# Altium integrated library Integrated_Library1.IntLib: 2483 symbols (part 11 of 13)
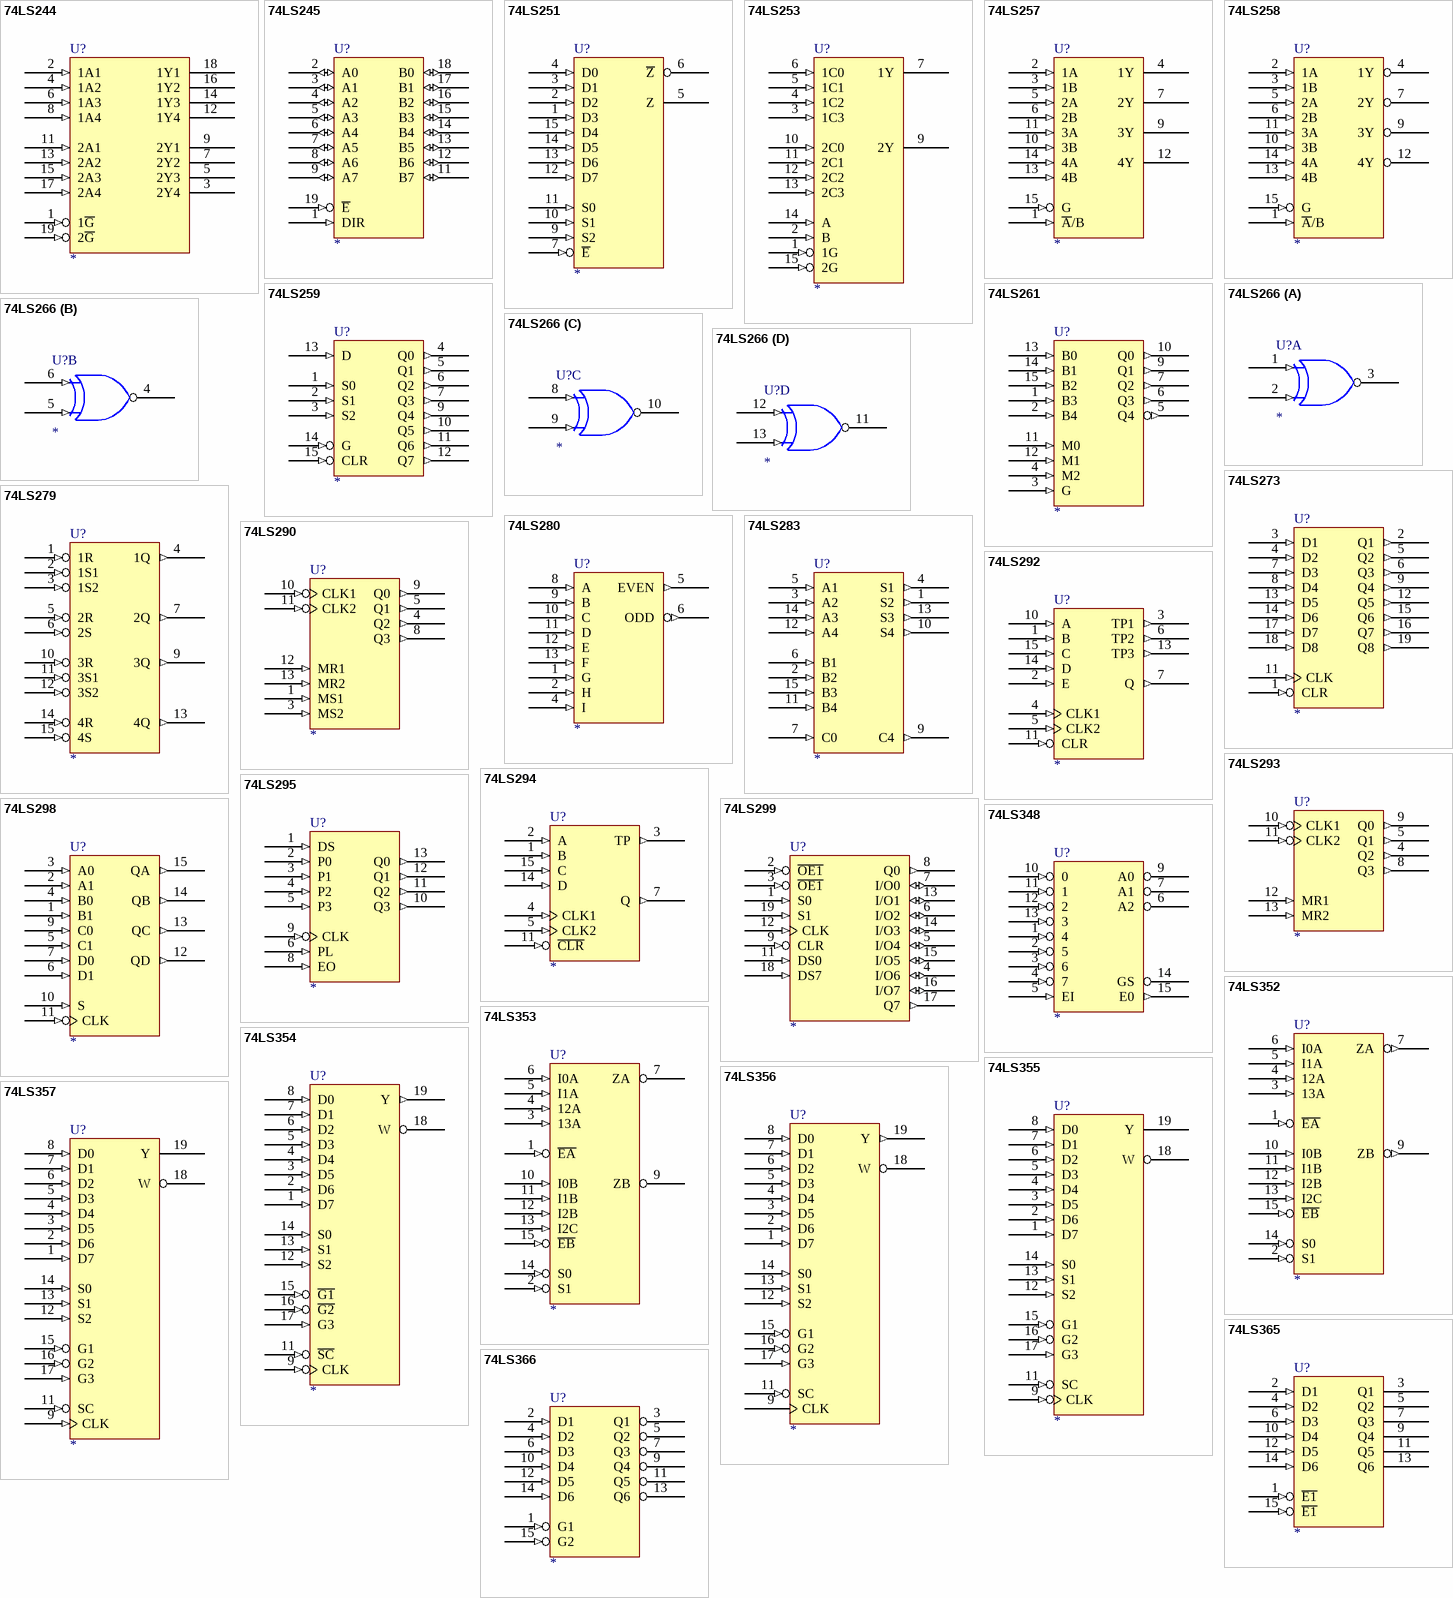
[diagram p118: symbols 74LS244 to 74LS366]

## 74LS259
designator U?
footprint DIP-16
pins: 1 S0 (in), 2 S1 (in), 3 S2 (in), 4 Q0 (out), 5 Q1 (out), 6 Q2 (out), 7 Q3 (out), 8 GND (power) hidden to GND, 9 Q4 (out), 10 Q5 (out), 11 Q6 (out), 12 Q7 (out), 13 D (in), 14 G (in), 15 CLR (in), 16 VCC (power) hidden to VCC

## 74LS261
designator U?
footprint DIP-16
pins: 1 B3 (in), 2 B4 (in), 3 G (in), 4 M2 (in), 5 Q4 (out), 6 Q3 (out), 7 Q2 (out), 8 GND (power) hidden to GND, 9 Q1 (out), 10 Q0 (out), 11 M0 (in), 12 M1 (in), 13 B0 (in), 14 B1 (in), 15 B2 (in), 16 VCC (power) hidden to VCC

## 74LS266
designator U?
footprint DIP-14
part A pins: 1 (in), 2 (in), 3 (oc), 7 GND (power) hidden to GND, 14 VCC (power) hidden to VCC
part B pins: 4 (oc), 5 (in), 6 (in), 7 GND (power) hidden to GND, 14 VCC (power) hidden to VCC
part C pins: 7 GND (power) hidden to GND, 8 (in), 9 (in), 10 (oc), 14 VCC (power) hidden to VCC
part D pins: 7 GND (power) hidden to GND, 11 (oc), 12 (in), 13 (in), 14 VCC (power) hidden to VCC

## 74LS273
designator U?
footprint DIP-20
pins: 1 CLR (in), 2 Q1 (out), 3 D1 (in), 4 D2 (in), 5 Q2 (out), 6 Q3 (out), 7 D3 (in), 8 D4 (in), 9 Q4 (out), 10 GND (power) hidden to GND, 11 CLK (in), 12 Q5 (out), 13 D5 (in), 14 D6 (in), 15 Q6 (out), 16 Q7 (out), 17 D7 (in), 18 D8 (in), 19 Q8 (out), 20 VCC (power) hidden to VCC

## 74LS279
designator U?
footprint DIP-16
pins: 1 1R (in), 2 1S1 (in), 3 1S2 (in), 4 1Q (out), 5 2R (in), 6 2S (in), 7 2Q (out), 8 GND (power) hidden to GND, 9 3Q (out), 10 3R (in), 11 3S1 (in), 12 3S2 (in), 13 4Q (out), 14 4R (in), 15 4S (in), 16 VCC (power) hidden to VCC

## 74LS280
designator U?
footprint DIP-14
pins: 1 G (in), 2 H (in), 4 I (in), 5 EVEN (out), 6 ODD (out), 7 GND (power) hidden to GND, 8 A (in), 9 B (in), 10 C (in), 11 D (in), 12 E (in), 13 F (in), 14 VCC (power) hidden to VCC

## 74LS283
designator U?
footprint DIP-16
pins: 1 S2 (out), 2 B2 (in), 3 A2 (in), 4 S1 (out), 5 A1 (in), 6 B1 (in), 7 C0 (in), 8 GND (power) hidden to GND, 9 C4 (out), 10 S4 (out), 11 B4 (in), 12 A4 (in), 13 S3 (out), 14 A3 (in), 15 B3 (in), 16 VCC (power) hidden to VCC

## 74LS290
designator U?
footprint DIP-14
pins: 1 MS1 (in), 3 MS2 (in), 4 Q2 (out), 5 Q1 (out), 7 GND (power) hidden to GND, 8 Q3 (out), 9 Q0 (out), 10 CLK1 (in), 11 CLK2 (in), 12 MR1 (in), 13 MR2 (in), 14 VCC (power) hidden to VCC

## 74LS292
designator U?
footprint DIP-16
pins: 1 B (in), 2 E (in), 3 TP1 (out), 4 CLK1 (in), 5 CLK2 (in), 6 TP2 (out), 7 Q (out), 8 GND (power) hidden to GND, 10 A (in), 11 CLR (in), 13 TP3 (out), 14 D (in), 15 C (in), 16 VCC (power) hidden to VCC

## 74LS293
designator U?
footprint DIP-14
pins: 4 Q2 (out), 5 Q1 (out), 7 GND (power) hidden to GND, 8 Q3 (out), 9 Q0 (out), 10 CLK1 (in), 11 CLK2 (in), 12 MR1 (in), 13 MR2 (in), 14 VCC (power) hidden to VCC

## 74LS294
designator U?
footprint DIP-16
pins: 1 B (in), 2 A (in), 3 TP (out), 4 CLK1 (in), 5 CLK2 (in), 7 Q (out), 8 GND (power) hidden to GND, 11 ~{CLR} (in), 14 D (in), 15 C (in), 16 VCC (power) hidden to VCC

## 74LS295
designator U?
footprint DIP-14
pins: 1 DS (in), 2 P0 (in), 3 P1 (in), 4 P2 (in), 5 P3 (in), 6 PL (in), 7 GND (power) hidden to GND, 8 EO (in), 9 CLK (in), 10 Q3 (out), 11 Q2 (out), 12 Q1 (out), 13 Q0 (out), 14 VCC (power) hidden to VCC

## 74LS298
designator U?
footprint DIP-16
pins: 1 B1 (in), 2 A1 (in), 3 A0 (in), 4 B0 (in), 5 C1 (in), 6 D1 (in), 7 D0 (in), 8 GND (power) hidden to GND, 9 C0 (in), 10 S (in), 11 CLK (in), 12 QD (out), 13 QC (out), 14 QB (out), 15 QA (out), 16 VCC (power) hidden to VCC

## 74LS299
designator U?
footprint DIP-20
pins: 1 S0 (in), 2 ~{OE1} (in), 3 ~{OE1} (in), 4 I/O6 (io), 5 I/O4 (io), 6 I/O2 (io), 7 I/O0 (io), 8 Q0 (out), 9 CLR (in), 10 GND (power) hidden to GND, 11 DS0 (in), 12 CLK (in), 13 I/O1 (io), 14 I/O3 (io), 15 I/O5 (io), 16 I/O7 (io), 17 Q7 (out), 18 DS7 (in), 19 S1 (in), 20 VCC (power) hidden to VCC

## 74LS348
designator U?
footprint DIP-16
pins: 1 4 (in), 2 5 (in), 3 6 (in), 4 7 (in), 5 EI (in), 6 A2 (hiz), 7 A1 (hiz), 8 GND (power) hidden to GND, 9 A0 (hiz), 10 0 (in), 11 1 (in), 12 2 (in), 13 3 (in), 14 GS (hiz), 15 E0 (out), 16 VCC (power) hidden to VCC

## 74LS352
designator U?
footprint DIP-16
pins: 1 ~{EA} (in), 2 S1 (in), 3 13A (in), 4 12A (in), 5 I1A (in), 6 I0A (in), 7 ZA (out), 8 GND (power) hidden to GND, 9 ZB (out), 10 I0B (in), 11 I1B (in), 12 I2B (in), 13 I2C (in), 14 S0 (in), 15 ~{EB} (in), 16 VCC (power) hidden to VCC

## 74LS353
designator U?
footprint DIP-16
pins: 1 ~{EA} (in), 2 S1 (in), 3 13A (in), 4 12A (in), 5 I1A (in), 6 I0A (in), 7 ZA (hiz), 8 GND (power) hidden to GND, 9 ZB (hiz), 10 I0B (in), 11 I1B (in), 12 I2B (in), 13 I2C (in), 14 S0 (in), 15 ~{EB} (in), 16 VCC (power) hidden to VCC

## 74LS354
designator U?
footprint DIP-20
pins: 1 D7 (in), 2 D6 (in), 3 D5 (in), 4 D4 (in), 5 D3 (in), 6 D2 (in), 7 D1 (in), 8 D0 (in), 9 CLK (in), 10 GND (power) hidden to GND, 11 ~{SC} (in), 12 S2 (in), 13 S1 (in), 14 S0 (in), 15 ~{G1} (in), 16 ~{G2} (in), 17 G3 (in), 18 W (hiz), 19 Y (out), 20 VCC (power) hidden to VCC

## 74LS355
designator U?
footprint DIP-20
pins: 1 D7 (in), 2 D6 (in), 3 D5 (in), 4 D4 (in), 5 D3 (in), 6 D2 (in), 7 D1 (in), 8 D0 (in), 9 CLK (in), 10 GND (power) hidden to GND, 11 SC (in), 12 S2 (in), 13 S1 (in), 14 S0 (in), 15 G1 (in), 16 G2 (in), 17 G3 (in), 18 W (oc), 19 Y (oc), 20 VCC (power) hidden to VCC

## 74LS356
designator U?
footprint DIP-20
pins: 1 D7 (in), 2 D6 (in), 3 D5 (in), 4 D4 (in), 5 D3 (in), 6 D2 (in), 7 D1 (in), 8 D0 (in), 9 CLK, 10 GND (power) hidden to GND, 11 SC (in), 12 S2 (in), 13 S1 (in), 14 S0 (in), 15 G1 (in), 16 G2 (in), 17 G3 (in), 18 W (hiz), 19 Y (out), 20 VCC (power) hidden to VCC

## 74LS357
designator U?
footprint DIP-20
pins: 1 D7 (in), 2 D6 (in), 3 D5 (in), 4 D4 (in), 5 D3 (in), 6 D2 (in), 7 D1 (in), 8 D0 (in), 9 CLK (in), 10 GND (power) hidden to GND, 11 SC (in), 12 S2 (in), 13 S1 (in), 14 S0 (in), 15 G1 (in), 16 G2 (in), 17 G3 (in), 18 W (oc), 19 Y (oc), 20 VCC (power) hidden to VCC

## 74LS365
designator U?
footprint DIP-16
pins: 1 ~{E1} (in), 2 D1 (in), 3 Q1 (hiz), 4 D2 (in), 5 Q2 (hiz), 6 D3 (in), 7 Q3 (hiz), 8 GND (power) hidden to GND, 9 Q4 (hiz), 10 D4 (in), 11 Q5 (hiz), 12 D5 (in), 13 Q6 (hiz), 14 D6 (in), 15 ~{E1} (in), 16 VCC (power) hidden to VCC

## 74LS366
designator U?
footprint DIP-16
pins: 1 G1 (in), 2 D1 (in), 3 Q1 (hiz), 4 D2 (in), 5 Q2 (hiz), 6 D3 (in), 7 Q3 (hiz), 8 GND (power) hidden to GND, 9 Q4 (hiz), 10 D4 (in), 11 Q5 (hiz), 12 D5 (in), 13 Q6 (hiz), 14 D6 (in), 15 G2 (in), 16 VCC (power) hidden to VCC

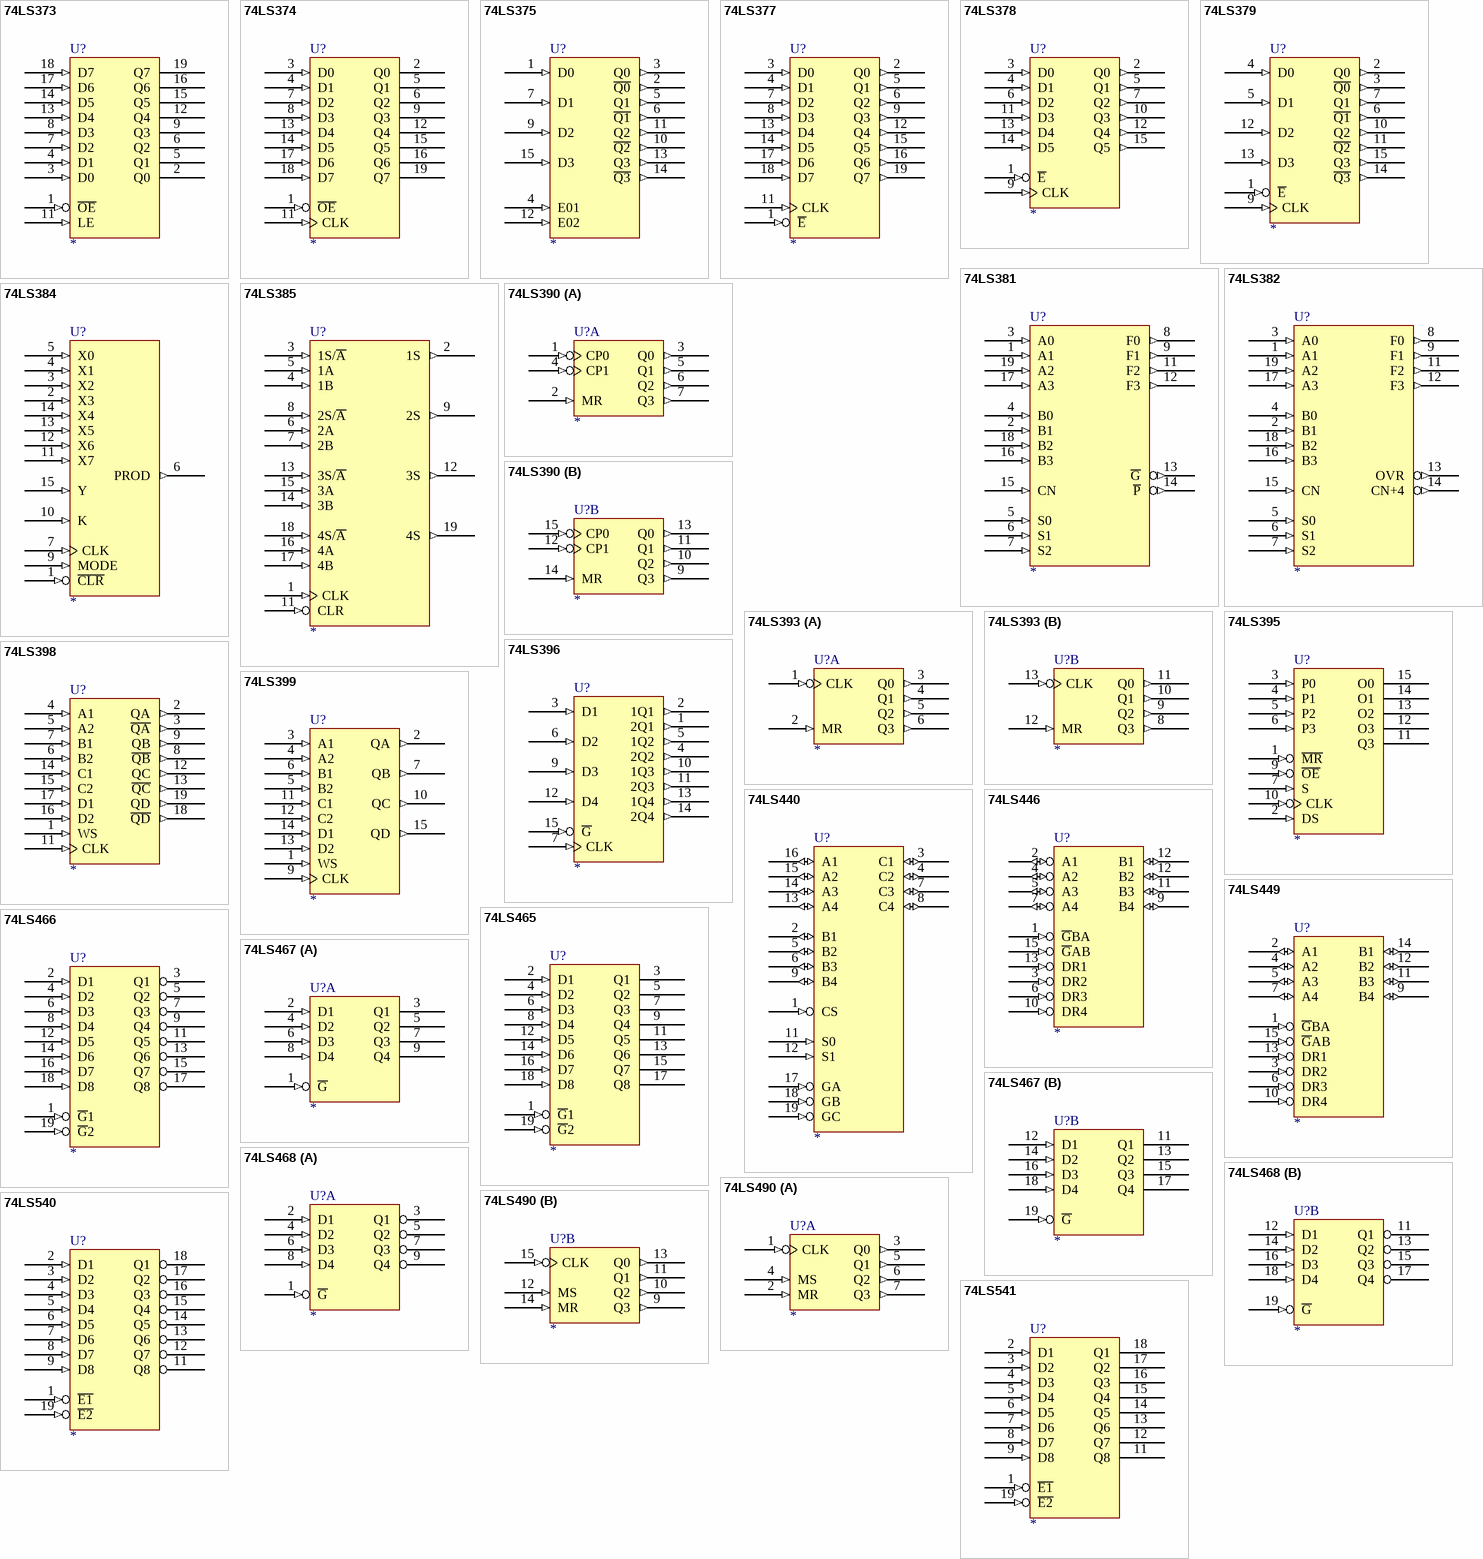
[diagram p78: symbols 74LS373 to 74LS541]

## 74LS373
designator U?
footprint DIP-20
pins: 1 ~{OE} (in), 2 Q0 (hiz), 3 D0 (in), 4 D1 (in), 5 Q1 (hiz), 6 Q2 (hiz), 7 D2 (in), 8 D3 (in), 9 Q3 (hiz), 10 GND (power) hidden to GND, 11 LE (in), 12 Q4 (hiz), 13 D4 (in), 14 D5 (in), 15 Q5 (hiz), 16 Q6 (hiz), 17 D6 (in), 18 D7 (in), 19 Q7 (hiz), 20 VCC (power) hidden to VCC

## 74LS374
designator U?
footprint DIP-20
pins: 1 ~{OE} (in), 2 Q0 (hiz), 3 D0 (in), 4 D1 (in), 5 Q1 (hiz), 6 Q2 (hiz), 7 D2 (in), 8 D3 (in), 9 Q3 (hiz), 10 GND (power) hidden to GND, 11 CLK (in), 12 Q4 (hiz), 13 D4 (in), 14 D5 (in), 15 Q5 (hiz), 16 Q6 (hiz), 17 D6 (in), 18 D7 (in), 19 Q7 (hiz), 20 VCC (power) hidden to VCC

## 74LS375
designator U?
footprint DIP-16
pins: 1 D0 (in), 2 ~{Q0} (out), 3 Q0 (out), 4 E01 (in), 5 Q1 (out), 6 ~{Q1} (out), 7 D1 (in), 8 GND (power) hidden to GND, 9 D2 (in), 10 ~{Q2} (out), 11 Q2 (out), 12 E02 (in), 13 Q3 (out), 14 ~{Q3} (out), 15 D3 (in), 16 VCC (power) hidden to VCC

## 74LS377
designator U?
footprint DIP-16
pins: 1 ~{E} (in), 2 Q0 (out), 3 D0 (in), 4 D1 (in), 5 Q1 (out), 6 Q2 (out), 7 D2 (in), 8 D3 (in), 9 Q3 (out), 11 CLK (in), 11 GND (power) hidden to GND, 12 Q4 (out), 13 D4 (in), 14 D5 (in), 15 Q5 (out), 16 Q6 (out), 17 D6 (in), 18 D7 (in), 19 Q7 (out), 21 VCC (power) hidden to VCC

## 74LS378
designator U?
footprint DIP-16
pins: 1 ~{E} (in), 2 Q0 (out), 3 D0 (in), 4 D1 (in), 5 Q1 (out), 6 D2 (in), 7 Q2 (out), 8 GND (power) hidden to GND, 9 CLK (in), 10 Q3 (out), 11 D3 (in), 12 Q4 (out), 13 D4 (in), 14 D5 (in), 15 Q5 (out), 16 VCC (power) hidden to VCC

## 74LS379
designator U?
footprint DIP-16
pins: 1 ~{E} (in), 2 Q0 (out), 3 ~{Q0} (out), 4 D0 (in), 5 D1 (in), 6 ~{Q1} (out), 7 Q1 (out), 8 GND (power) hidden to GND, 9 CLK (in), 10 Q2 (out), 11 ~{Q2} (out), 12 D2 (in), 13 D3 (in), 14 ~{Q3} (out), 15 Q3 (out), 16 VCC (power) hidden to VCC

## 74LS381
designator U?
footprint DIP-16
pins: 1 A1 (in), 2 B1 (in), 3 A0 (in), 4 B0 (in), 5 S0 (in), 6 S1 (in), 7 S2 (in), 8 F0 (out), 9 F1 (out), 10 GND (power) hidden to GND, 11 F2 (out), 12 F3 (out), 13 ~{G} (out), 14 ~{P} (out), 15 CN (in), 16 B3 (in), 17 A3 (in), 18 B2 (in), 19 A2 (in), 20 VCC (power) hidden to VCC

## 74LS382
designator U?
footprint DIP-20
pins: 1 A1 (in), 2 B1 (in), 3 A0 (in), 4 B0 (in), 5 S0 (in), 6 S1 (in), 7 S2 (in), 8 F0 (out), 9 F1 (out), 10 GND (power) hidden to GND, 11 F2 (out), 12 F3 (out), 13 OVR (out), 14 CN+4 (out), 15 CN (in), 16 B3 (in), 17 A3 (in), 18 B2 (in), 19 A2 (in), 20 VCC (power) hidden to VCC

## 74LS384
designator U?
footprint DIP-16
pins: 1 ~{CLR} (in), 2 X3 (in), 3 X2 (in), 4 X1 (in), 5 X0 (in), 6 PROD (out), 7 CLK (in), 8 GND (power) hidden to GND, 9 MODE (in), 10 K (in), 11 X7 (in), 12 X6 (in), 13 X5 (in), 14 X4 (in), 15 Y (in), 16 VCC (power) hidden to VCC

## 74LS385
designator U?
footprint DIP-20
pins: 1 CLK (in), 2 1S (out), 3 1S/~{A} (in), 4 1B (in), 5 1A (in), 6 2A (in), 7 2B (in), 8 2S/~{A} (in), 9 2S (out), 10 GND (power) hidden to GND, 11 CLR (in), 12 3S (out), 13 3S/~{A} (in), 14 3B (in), 15 3A (in), 16 4A (in), 17 4B (in), 18 4S/~{A} (in), 19 4S (out), 20 VCC (power) hidden to VCC

## 74LS390
designator U?
footprint DIP-16
part A pins: 1 CP0 (in), 2 MR (in), 3 Q0 (out), 4 CP1 (in), 5 Q1 (out), 6 Q2 (out), 7 Q3 (out), 8 GND (power) hidden to GND, 16 VCC (power) hidden to VCC
part B pins: 8 GND (power) hidden to GND, 9 Q3 (out), 10 Q2 (out), 11 Q1 (out), 12 CP1 (in), 13 Q0 (out), 14 MR (in), 15 CP0 (in), 16 VCC (power) hidden to VCC

## 74LS393
designator U?
footprint DIP-14
part A pins: 1 CLK (in), 2 MR (in), 3 Q0 (out), 4 Q1 (out), 5 Q2 (out), 6 Q3 (out), 7 GND (power) hidden to GND, 14 VCC (power) hidden to VCC
part B pins: 7 GND (power) hidden to GND, 8 Q3 (out), 9 Q2 (out), 10 Q1 (out), 11 Q0 (out), 12 MR (in), 13 CLK (in), 14 VCC (power) hidden to VCC

## 74LS395
designator U?
footprint DIP-14
pins: 1 ~{MR} (in), 2 DS (in), 3 P0 (in), 4 P1 (in), 5 P2 (in), 6 P3 (in), 7 S (in), 8 GND (power) hidden to GND, 9 ~{OE} (in), 10 CLK (in), 11 Q3 (hiz), 12 O3 (hiz), 13 O2 (hiz), 14 O1 (hiz), 15 O0 (hiz), 16 VCC (power) hidden to VCC

## 74LS396
designator U?
footprint DIP-14
pins: 1 2Q1 (out), 2 1Q1 (out), 3 D1 (in), 4 2Q2 (out), 5 1Q2 (out), 6 D2 (in), 7 CLK (in), 8 GND (power) hidden to GND, 9 D3 (in), 10 1Q3 (out), 11 2Q3 (out), 12 D4 (in), 13 1Q4 (out), 14 2Q4 (out), 15 ~{G} (in), 16 VCC (power) hidden to VCC

## 74LS398
designator U?
footprint DIP-20
pins: 1 WS (in), 2 QA (out), 3 ~{QA} (out), 4 A1 (in), 5 A2 (in), 6 B2 (in), 7 B1 (in), 8 ~{QB} (out), 9 QB (out), 10 GND (power) hidden to GND, 11 CLK (in), 12 QC (out), 13 ~{QC} (out), 14 C1 (in), 15 C2 (in), 16 D2 (in), 17 D1 (in), 18 ~{QD} (out), 19 QD (out), 20 VCC (power) hidden to VCC

## 74LS399
designator U?
footprint DIP-16
pins: 1 WS (in), 2 QA (out), 3 A1 (in), 4 A2 (in), 5 B2 (in), 6 B1 (in), 7 QB (out), 8 GND (power) hidden to GND, 9 CLK (in), 10 QC (out), 11 C1 (in), 12 C2 (in), 13 D2 (in), 14 D1 (in), 15 QD (out), 16 VCC (power) hidden to VCC

## 74LS440
designator U?
footprint DIP-20
pins: 1 CS (in), 2 B1 (io), 3 C1 (io), 4 C2 (io), 5 B2 (io), 6 B3 (io), 7 C3 (io), 8 C4 (io), 9 B4 (io), 10 GND (power) hidden to GND, 11 S0 (in), 12 S1 (in), 13 A4 (io), 14 A3 (io), 15 A2 (io), 16 A1 (io), 17 GA (in), 18 GB (in), 19 GC (in), 20 VCC (power) hidden to VCC

## 74LS446
designator U?
footprint DIP-16
pins: 1 ~{G}BA (in), 2 A1 (io), 3 DR2 (in), 4 A2 (io), 5 A3 (io), 6 DR3 (in), 7 A4 (io), 8 GND (power) hidden to GND, 9 B4 (io), 10 DR4 (in), 11 B3 (io), 12 B1 (io), 12 B2 (io), 13 DR1 (in), 15 ~{G}AB (in), 16 VCC (power) hidden to VCC

## 74LS449
designator U?
footprint DIP-16
pins: 1 ~{G}BA (in), 2 A1 (io), 3 DR2 (in), 4 A2 (io), 5 A3 (io), 6 DR3 (in), 7 A4 (io), 8 GND (power) hidden to GND, 9 B4 (io), 10 DR4 (in), 11 B3 (io), 12 B2 (io), 13 DR1 (in), 14 B1 (io), 15 ~{G}AB (in), 16 VCC (power) hidden to VCC

## 74LS465
designator U?
footprint DIP-20
pins: 1 ~{G}1 (in), 2 D1 (in), 3 Q1 (hiz), 4 D2 (in), 5 Q2 (hiz), 6 D3 (in), 7 Q3 (hiz), 8 D4 (in), 9 Q4 (hiz), 10 GND (power) hidden to GND, 11 Q5 (hiz), 12 D5 (in), 13 Q6 (hiz), 14 D6 (in), 15 Q7 (hiz), 16 D7 (in), 17 Q8 (hiz), 18 D8 (in), 19 ~{G}2 (in), 20 VCC (power) hidden to VCC

## 74LS466
designator U?
footprint DIP-20
pins: 1 ~{G}1 (in), 2 D1 (in), 3 Q1 (hiz), 4 D2 (in), 5 Q2 (hiz), 6 D3 (in), 7 Q3 (hiz), 8 D4 (in), 9 Q4 (hiz), 10 GND (power) hidden to GND, 11 Q5 (hiz), 12 D5 (in), 13 Q6 (hiz), 14 D6 (in), 15 Q7 (hiz), 16 D7 (in), 17 Q8 (hiz), 18 D8 (in), 19 ~{G}2 (in), 20 VCC (power) hidden to VCC

## 74LS467
designator U?
footprint DIP-20
part A pins: 1 ~{G} (in), 2 D1 (in), 3 Q1 (hiz), 4 D2 (in), 5 Q2 (hiz), 6 D3 (in), 7 Q3 (hiz), 8 D4 (in), 9 Q4 (hiz), 10 GND (power) hidden to GND, 20 VCC (power) hidden to VCC
part B pins: 10 GND (power) hidden to GND, 11 Q1 (hiz), 12 D1 (in), 13 Q2 (hiz), 14 D2 (in), 15 Q3 (hiz), 16 D3 (in), 17 Q4 (hiz), 18 D4 (in), 19 ~{G} (in), 20 VCC (power) hidden to VCC

## 74LS468
designator U?
footprint DIP-20
part A pins: 1 ~{G} (in), 2 D1 (in), 3 Q1 (hiz), 4 D2 (in), 5 Q2 (hiz), 6 D3 (in), 7 Q3 (hiz), 8 D4 (in), 9 Q4 (hiz), 10 GND (power) hidden to GND, 20 VCC (power) hidden to VCC
part B pins: 10 GND (power) hidden to GND, 11 Q1 (hiz), 12 D1 (in), 13 Q2 (hiz), 14 D2 (in), 15 Q3 (hiz), 16 D3 (in), 17 Q4 (hiz), 18 D4 (in), 19 ~{G} (in), 20 VCC (power) hidden to VCC

## 74LS490
designator U?
footprint DIP-16
part A pins: 1 CLK (in), 2 MR (in), 3 Q0 (out), 4 MS (in), 5 Q1 (out), 6 Q2 (out), 7 Q3 (out), 8 GND (power) hidden to GND, 16 VCC (power) hidden to VCC
part B pins: 8 GND (power) hidden to GND, 9 Q3 (out), 10 Q2 (out), 11 Q1 (out), 12 MS (in), 13 Q0 (out), 14 MR (in), 15 CLK (in), 16 VCC (power) hidden to VCC

## 74LS540
designator U?
footprint DIP-20
pins: 1 ~{E1} (in), 2 D1 (in), 3 D2 (in), 4 D3 (in), 5 D4 (in), 6 D5 (in), 7 D6 (in), 8 D7 (in), 9 D8 (in), 10 GND (power) hidden to GND, 11 Q8 (hiz), 12 Q7 (hiz), 13 Q6 (hiz), 14 Q5 (hiz), 15 Q4 (hiz), 16 Q3 (hiz), 17 Q2 (hiz), 18 Q1 (hiz), 19 ~{E2} (in), 20 VCC (power) hidden to VCC

## 74LS541
designator U?
footprint DIP-20
pins: 1 ~{E1} (in), 2 D1 (in), 3 D2 (in), 4 D3 (in), 5 D4 (in), 6 D5 (in), 7 D6 (in), 8 D7 (in), 9 D8 (in), 10 GND (power) hidden to GND, 11 Q8 (hiz), 12 Q7 (hiz), 13 Q6 (hiz), 14 Q5 (hiz), 15 Q4 (hiz), 16 Q3 (hiz), 17 Q2 (hiz), 18 Q1 (hiz), 19 ~{E2} (in), 20 VCC (power) hidden to VCC

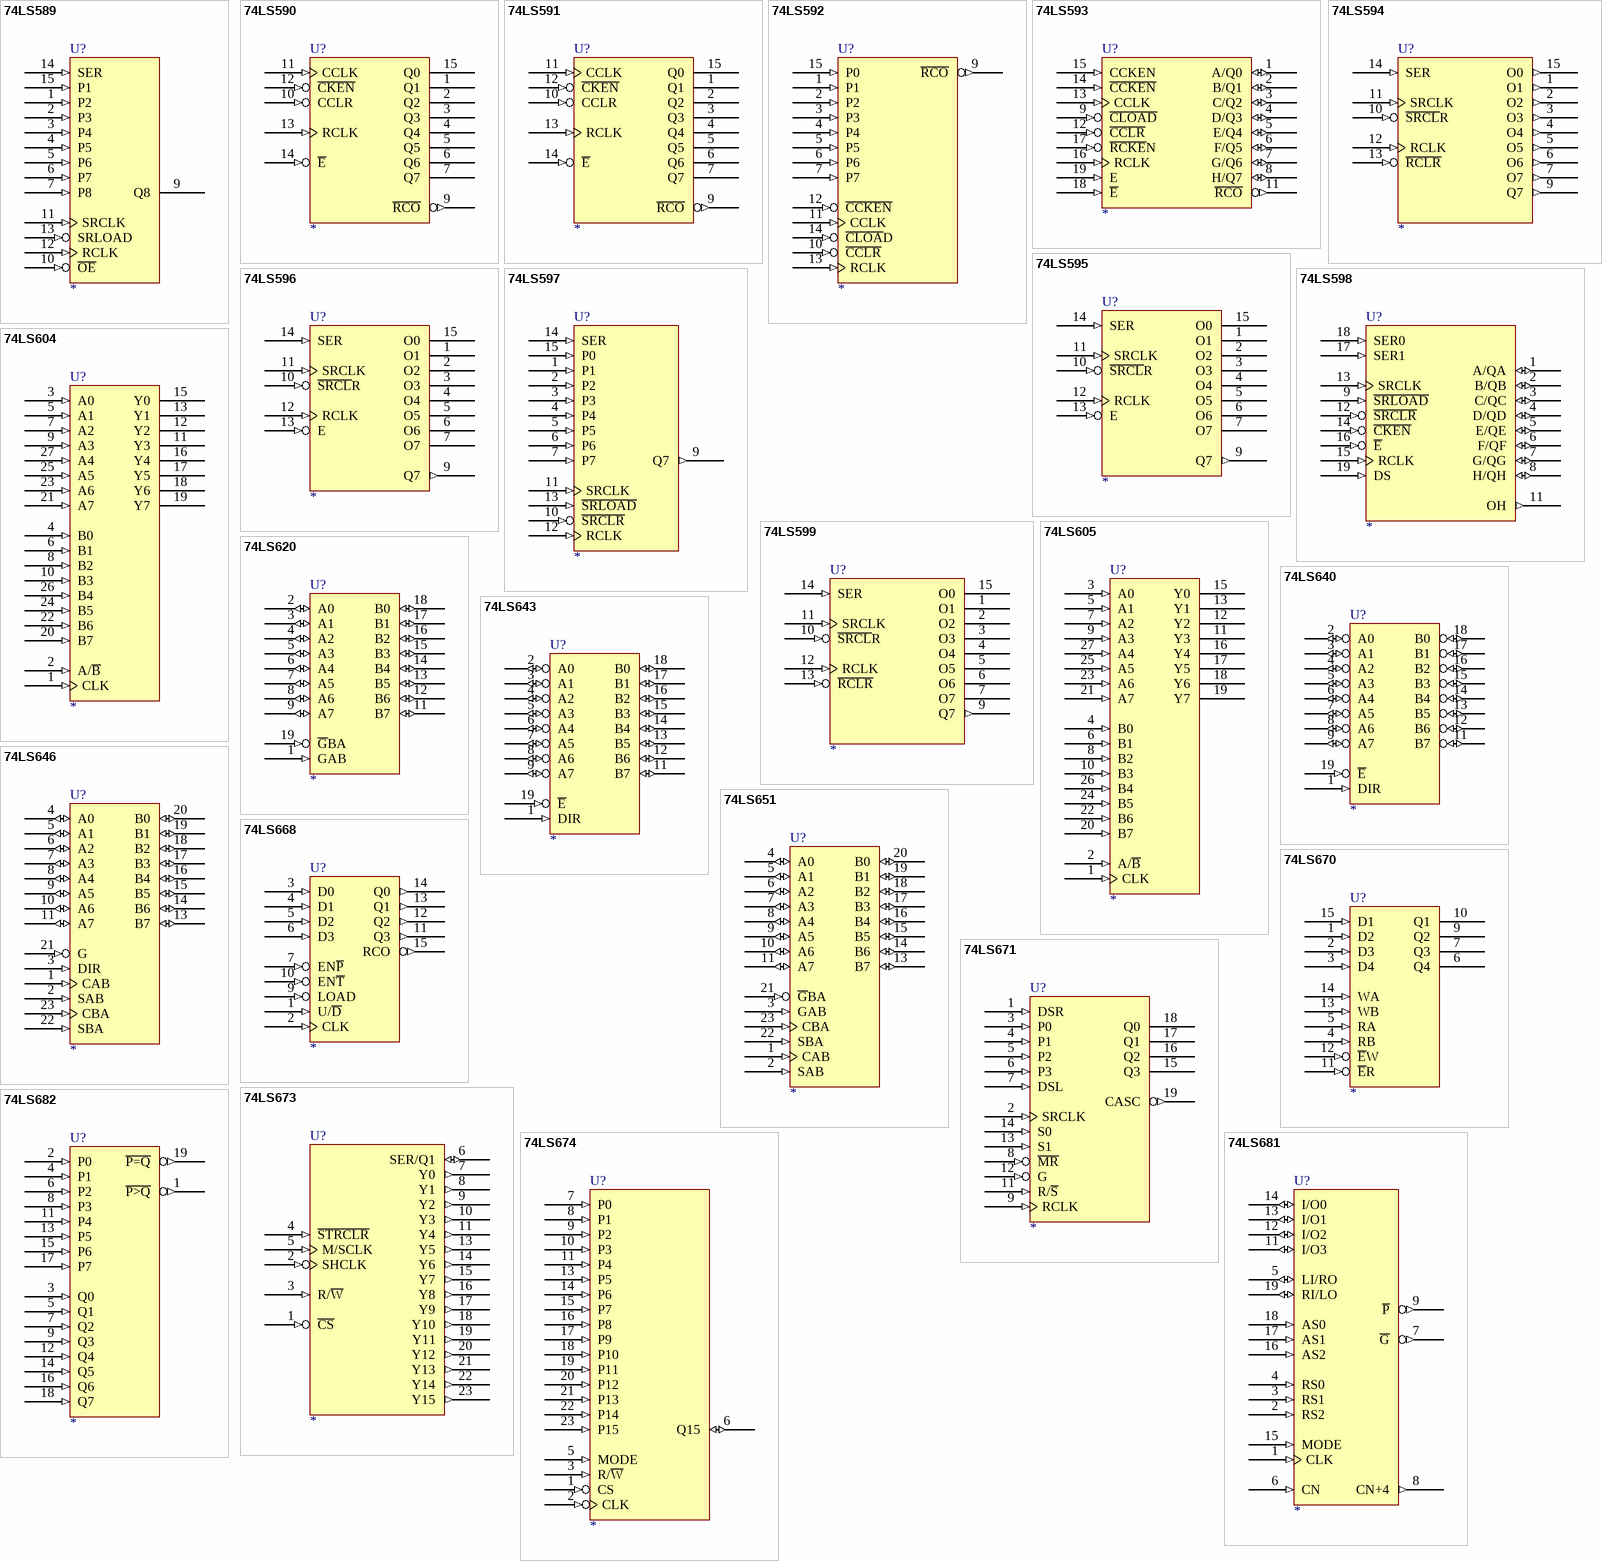
[diagram p79: symbols 74LS589 to 74LS682]

## 74LS589
designator U?
footprint DIP-16
pins: 1 P2 (in), 2 P3 (in), 3 P4 (in), 4 P5 (in), 5 P6 (in), 6 P7 (in), 7 P8 (in), 8 GND (power) hidden to GND, 9 Q8 (hiz), 10 ~{OE} (in), 11 SRCLK (in), 12 RCLK (in), 13 SRLOAD (in), 14 SER (in), 15 P1 (in), 16 VCC (power) hidden to VCC

## 74LS590
designator U?
footprint DIP-16
pins: 1 Q1 (hiz), 2 Q2 (hiz), 3 Q3 (hiz), 4 Q4 (hiz), 5 Q5 (hiz), 6 Q6 (hiz), 7 Q7 (hiz), 8 GND (power) hidden to GND, 9 ~{RCO} (out), 10 CCLR (in), 11 CCLK (in), 12 ~{CKEN} (in), 13 RCLK (in), 14 ~{E} (in), 15 Q0 (hiz), 16 VCC (power) hidden to VCC

## 74LS591
designator U?
footprint DIP-16
pins: 1 Q1 (oc), 2 Q2 (oc), 3 Q3 (oc), 4 Q4 (oc), 5 Q5 (oc), 6 Q6 (oc), 7 Q7 (oc), 8 GND (power) hidden to GND, 9 ~{RCO} (out), 10 CCLR (in), 11 CCLK (in), 12 ~{CKEN} (in), 13 RCLK (in), 14 ~{E} (in), 15 Q0 (oc), 16 VCC (power) hidden to VCC

## 74LS592
designator U?
footprint DIP-16
pins: 1 P1 (in), 2 P2 (in), 3 P3 (in), 4 P4 (in), 5 P5 (in), 6 P6 (in), 7 P7 (in), 8 GND (power) hidden to GND, 9 ~{RCO} (out), 10 ~{CCLR} (in), 11 CCLK (in), 12 ~{CCKEN} (in), 13 RCLK (in), 14 ~{CLOA}D (in), 15 P0 (in), 16 VCC (power) hidden to VCC

## 74LS593
designator U?
footprint DIP-20
pins: 1 A/Q0 (io), 2 B/Q1 (io), 3 C/Q2 (io), 4 D/Q3 (io), 5 E/Q4 (io), 6 F/Q5 (io), 7 G/Q6 (io), 8 H/Q7 (io), 9 ~{CLOAD} (in), 10 GND (power) hidden to GND, 11 ~{RCO} (out), 12 ~{CCLR} (in), 13 CCLK (in), 14 ~{CCKEN} (in), 15 CCKEN (in), 16 RCLK (in), 17 ~{RCKE}N (in), 18 ~{E} (in), 19 E (in), 20 VCC (power) hidden to VCC

## 74LS594
designator U?
footprint DIP-16
pins: 1 O1 (out), 2 O2 (out), 3 O3 (out), 4 O4 (out), 5 O5 (out), 6 O6 (out), 7 O7 (out), 8 GND (power) hidden to GND, 9 Q7 (out), 10 ~{SRCL}R (in), 11 SRCLK (in), 12 RCLK (in), 13 ~{RCLR} (in), 14 SER (in), 15 O0 (out), 16 VCC (power) hidden to VCC

## 74LS595
designator U?
footprint DIP-16
pins: 1 O1 (hiz), 2 O2 (hiz), 3 O3 (hiz), 4 O4 (hiz), 5 O5 (hiz), 6 O6 (hiz), 7 O7 (hiz), 8 GND (power) hidden to GND, 9 Q7 (out), 10 ~{SRCL}R (in), 11 SRCLK (in), 12 RCLK (in), 13 E (in), 14 SER (in), 15 O0 (hiz), 16 VCC (power) hidden to VCC

## 74LS596
designator U?
footprint DIP-16
pins: 1 O1 (oc), 2 O2 (oc), 3 O3 (oc), 4 O4 (oc), 5 O5 (oc), 6 O6 (oc), 7 O7 (oc), 8 GND (power) hidden to GND, 9 Q7 (out), 10 ~{SRCL}R (in), 11 SRCLK (in), 12 RCLK (in), 13 E (in), 14 SER (in), 15 O0 (oc), 16 VCC (power) hidden to VCC

## 74LS597
designator U?
footprint DIP-16
pins: 1 P1 (in), 2 P2 (in), 3 P3 (in), 4 P4 (in), 5 P5 (in), 6 P6 (in), 7 P7 (in), 8 GND (power) hidden to GND, 9 Q7 (out), 10 ~{SRCLR} (in), 11 SRCLK (in), 12 RCLK (in), 13 ~{SRLOAD} (in), 14 SER (in), 15 P0 (in), 16 VCC (power) hidden to VCC

## 74LS598
designator U?
footprint DIP-20
pins: 1 A/QA (io), 2 B/QB (io), 3 C/QC (io), 4 D/QD (io), 5 E/QE (io), 6 F/QF (io), 7 G/QG (io), 8 H/QH (io), 9 ~{SRLOAD} (in), 10 GND (power) hidden to GND, 11 OH (out), 12 ~{SRCLR} (in), 13 SRCLK (in), 14 ~{CKEN} (in), 15 RCLK (in), 16 ~{E} (in), 17 SER1 (in), 18 SER0 (in), 19 DS (in), 20 VCC (power) hidden to VCC

## 74LS599
designator U?
footprint DIP-16
pins: 1 O1 (oc), 2 O2 (oc), 3 O3 (oc), 4 O4 (oc), 5 O5 (oc), 6 O6 (oc), 7 O7 (oc), 8 GND (power) hidden to GND, 9 Q7 (out), 10 ~{SRCL}R (in), 11 SRCLK (in), 12 RCLK (in), 13 ~{RCLR} (in), 14 SER (in), 15 O0 (oc), 16 VCC (power) hidden to VCC

## 74LS604
designator U?
footprint DIP-28
pins: 1 CLK (in), 2 A/~{B} (in), 3 A0 (in), 4 B0 (in), 5 A1 (in), 6 B1 (in), 7 A2 (in), 8 B2 (in), 9 A3 (in), 10 B3 (in), 11 Y3 (hiz), 12 Y2 (hiz), 13 Y1 (hiz), 14 GND (power) hidden to GND, 15 Y0 (hiz), 16 Y4 (hiz), 17 Y5 (hiz), 18 Y6 (hiz), 19 Y7 (hiz), 20 B7 (in), 21 A7 (in), 22 B6 (in), 23 A6 (in), 24 B5 (in), 25 A5 (in), 26 B4 (in), 27 A4 (in), 28 VCC (power) hidden to VCC

## 74LS605
designator U?
footprint DIP-28
pins: 1 CLK (in), 2 A/~{B} (in), 3 A0 (in), 4 B0 (in), 5 A1 (in), 6 B1 (in), 7 A2 (in), 8 B2 (in), 9 A3 (in), 10 B3 (in), 11 Y3 (oc), 12 Y2 (oc), 13 Y1 (oc), 14 GND (power) hidden to GND, 15 Y0 (oc), 16 Y4 (oc), 17 Y5 (oc), 18 Y6 (oc), 19 Y7 (oc), 20 B7 (in), 21 A7 (in), 22 B6 (in), 23 A6 (in), 24 B5 (in), 25 A5 (in), 26 B4 (in), 27 A4 (in), 28 VCC (power) hidden to VCC

## 74LS620
designator U?
footprint DIP-20
pins: 1 GAB (in), 2 A0 (io), 3 A1 (io), 4 A2 (io), 5 A3 (io), 6 A4 (io), 7 A5 (io), 8 A6 (io), 9 A7 (io), 10 GND (power) hidden to GND, 11 B7 (io), 12 B6 (io), 13 B5 (io), 14 B4 (io), 15 B3 (io), 16 B2 (io), 17 B1 (io), 18 B0 (io), 19 ~{G}BA (in), 20 VCC (power) hidden to VCC

## 74LS640
designator U?
footprint DIP-20
pins: 1 DIR (in), 2 A0 (io), 3 A1 (io), 4 A2 (io), 5 A3 (io), 6 A4 (io), 7 A5 (io), 8 A6 (io), 9 A7 (io), 10 GND (power) hidden to GND, 11 B7 (io), 12 B6 (io), 13 B5 (io), 14 B4 (io), 15 B3 (io), 16 B2 (io), 17 B1 (io), 18 B0 (io), 19 ~{E} (in), 20 VCC (power) hidden to VCC

## 74LS643
designator U?
footprint DIP-20
pins: 1 DIR (in), 2 A0 (io), 3 A1 (io), 4 A2 (io), 5 A3 (io), 6 A4 (io), 7 A5 (io), 8 A6 (io), 9 A7 (io), 10 GND (power) hidden to GND, 11 B7 (io), 12 B6 (io), 13 B5 (io), 14 B4 (io), 15 B3 (io), 16 B2 (io), 17 B1 (io), 18 B0 (io), 19 ~{E} (in), 20 VCC (power) hidden to VCC

## 74LS646
designator U?
footprint DIP-24
pins: 1 CAB (in), 2 SAB (in), 3 DIR (in), 4 A0 (io), 5 A1 (io), 6 A2 (io), 7 A3 (io), 8 A4 (io), 9 A5 (io), 10 A6 (io), 11 A7 (io), 12 GND (power) hidden to GND, 13 B7 (io), 14 B6 (io), 15 B5 (io), 16 B4 (io), 17 B3 (io), 18 B2 (io), 19 B1 (io), 20 B0 (io), 21 G (in), 22 SBA (in), 23 CBA (in), 24 VCC (power) hidden to VCC

## 74LS651
designator U?
footprint DIP-24
pins: 1 CAB (in), 2 SAB (in), 3 GAB (in), 4 A0 (io), 5 A1 (io), 6 A2 (io), 7 A3 (io), 8 A4 (io), 9 A5 (io), 10 A6 (io), 11 A7 (io), 12 GND (power) hidden to GND, 13 B7 (io), 14 B6 (io), 15 B5 (io), 16 B4 (io), 17 B3 (io), 18 B2 (io), 19 B1 (io), 20 B0 (io), 21 ~{G}BA (in), 22 SBA (in), 23 CBA (in), 24 VCC (power) hidden to VCC

## 74LS668
designator U?
footprint DIP-16
pins: 1 U/~{D} (in), 2 CLK (in), 3 D0 (in), 4 D1 (in), 5 D2 (in), 6 D3 (in), 7 EN~{P} (in), 8 GND (power) hidden to GND, 9 LOAD (in), 10 EN~{T} (in), 11 Q3 (out), 12 Q2 (out), 13 Q1 (out), 14 Q0 (out), 15 RCO (out), 16 VCC (power) hidden to VCC

## 74LS670
designator U?
footprint DIP-16
pins: 1 D2 (in), 2 D3 (in), 3 D4 (in), 4 RB (in), 5 RA (in), 6 Q4 (hiz), 7 Q3 (hiz), 8 GND (power) hidden to GND, 9 Q2 (hiz), 10 Q1 (hiz), 11 ~{E}R (in), 12 ~{E}W (in), 13 WB (in), 14 WA (in), 15 D1 (in), 16 VCC (power) hidden to VCC

## 74LS671
designator U?
footprint DIP-20
pins: 1 DSR (in), 2 SRCLK (in), 3 P0 (in), 4 P1 (in), 5 P2 (in), 6 P3 (in), 7 DSL (in), 8 ~{MR} (in), 9 RCLK (in), 10 GND (power) hidden to GND, 11 R/~{S} (in), 12 G (in), 13 S1 (in), 14 S0 (in), 15 Q3 (hiz), 16 Q2 (hiz), 17 Q1 (hiz), 18 Q0 (hiz), 19 CASC (out), 20 VCC (power) hidden to VCC

## 74LS673
designator U?
footprint DIP-24
pins: 1 ~{CS} (in), 2 SHCLK (in), 3 R/~{W} (in), 4 ~{STRCLR} (in), 5 M/SCLK (in), 6 SER/Q1 (io), 7 Y0 (out), 8 Y1 (out), 9 Y2 (out), 10 Y3 (out), 11 Y4 (out), 12 GND (power) hidden to GND, 13 Y5 (out), 14 Y6 (out), 15 Y7 (out), 16 Y8 (out), 17 Y9 (out), 18 Y10 (out), 19 Y11 (out), 20 Y12 (out), 21 Y13 (out), 22 Y14 (out), 23 Y15 (out), 24 VCC (power) hidden to VCC

## 74LS674
designator U?
footprint DIP-24
pins: 1 CS (in), 2 CLK (in), 3 R/~{W} (in), 5 MODE (in), 6 Q15 (io), 7 P0 (in), 8 P1 (in), 9 P2 (in), 10 P3 (in), 11 P4 (in), 12 GND (power) hidden to GND, 13 P5 (in), 14 P6 (in), 15 P7 (in), 16 P8 (in), 17 P9 (in), 18 P10 (in), 19 P11 (in), 20 P12 (in), 21 P13 (in), 22 P14 (in), 23 P15 (in), 24 VCC (power) hidden to VCC

## 74LS681
designator U?
footprint DIP-20
pins: 1 CLK (in), 2 RS2 (in), 3 RS1 (in), 4 RS0 (in), 5 LI/RO (io), 6 CN (in), 7 ~{G} (out), 8 CN+4 (out), 9 ~{P} (out), 10 GND (power) hidden to GND, 11 I/O3 (io), 12 I/O2 (io), 13 I/O1 (io), 14 I/O0 (io), 15 MODE (in), 16 AS2 (in), 17 AS1 (in), 18 AS0 (in), 19 RI/LO (io), 20 VCC (power) hidden to VCC

## 74LS682
designator U?
footprint DIP-20
pins: 1 ~{P>Q} (out), 2 P0 (in), 3 Q0 (in), 4 P1 (in), 5 Q1 (in), 6 P2 (in), 7 Q2 (in), 8 P3 (in), 9 Q3 (in), 10 GND (power) hidden to GND, 11 P4 (in), 12 Q4 (in), 13 P5 (in), 14 Q5 (in), 15 P6 (in), 16 Q6 (in), 17 P7 (in), 18 Q7 (in), 19 ~{P=Q} (out), 20 VCC (power) hidden to VCC

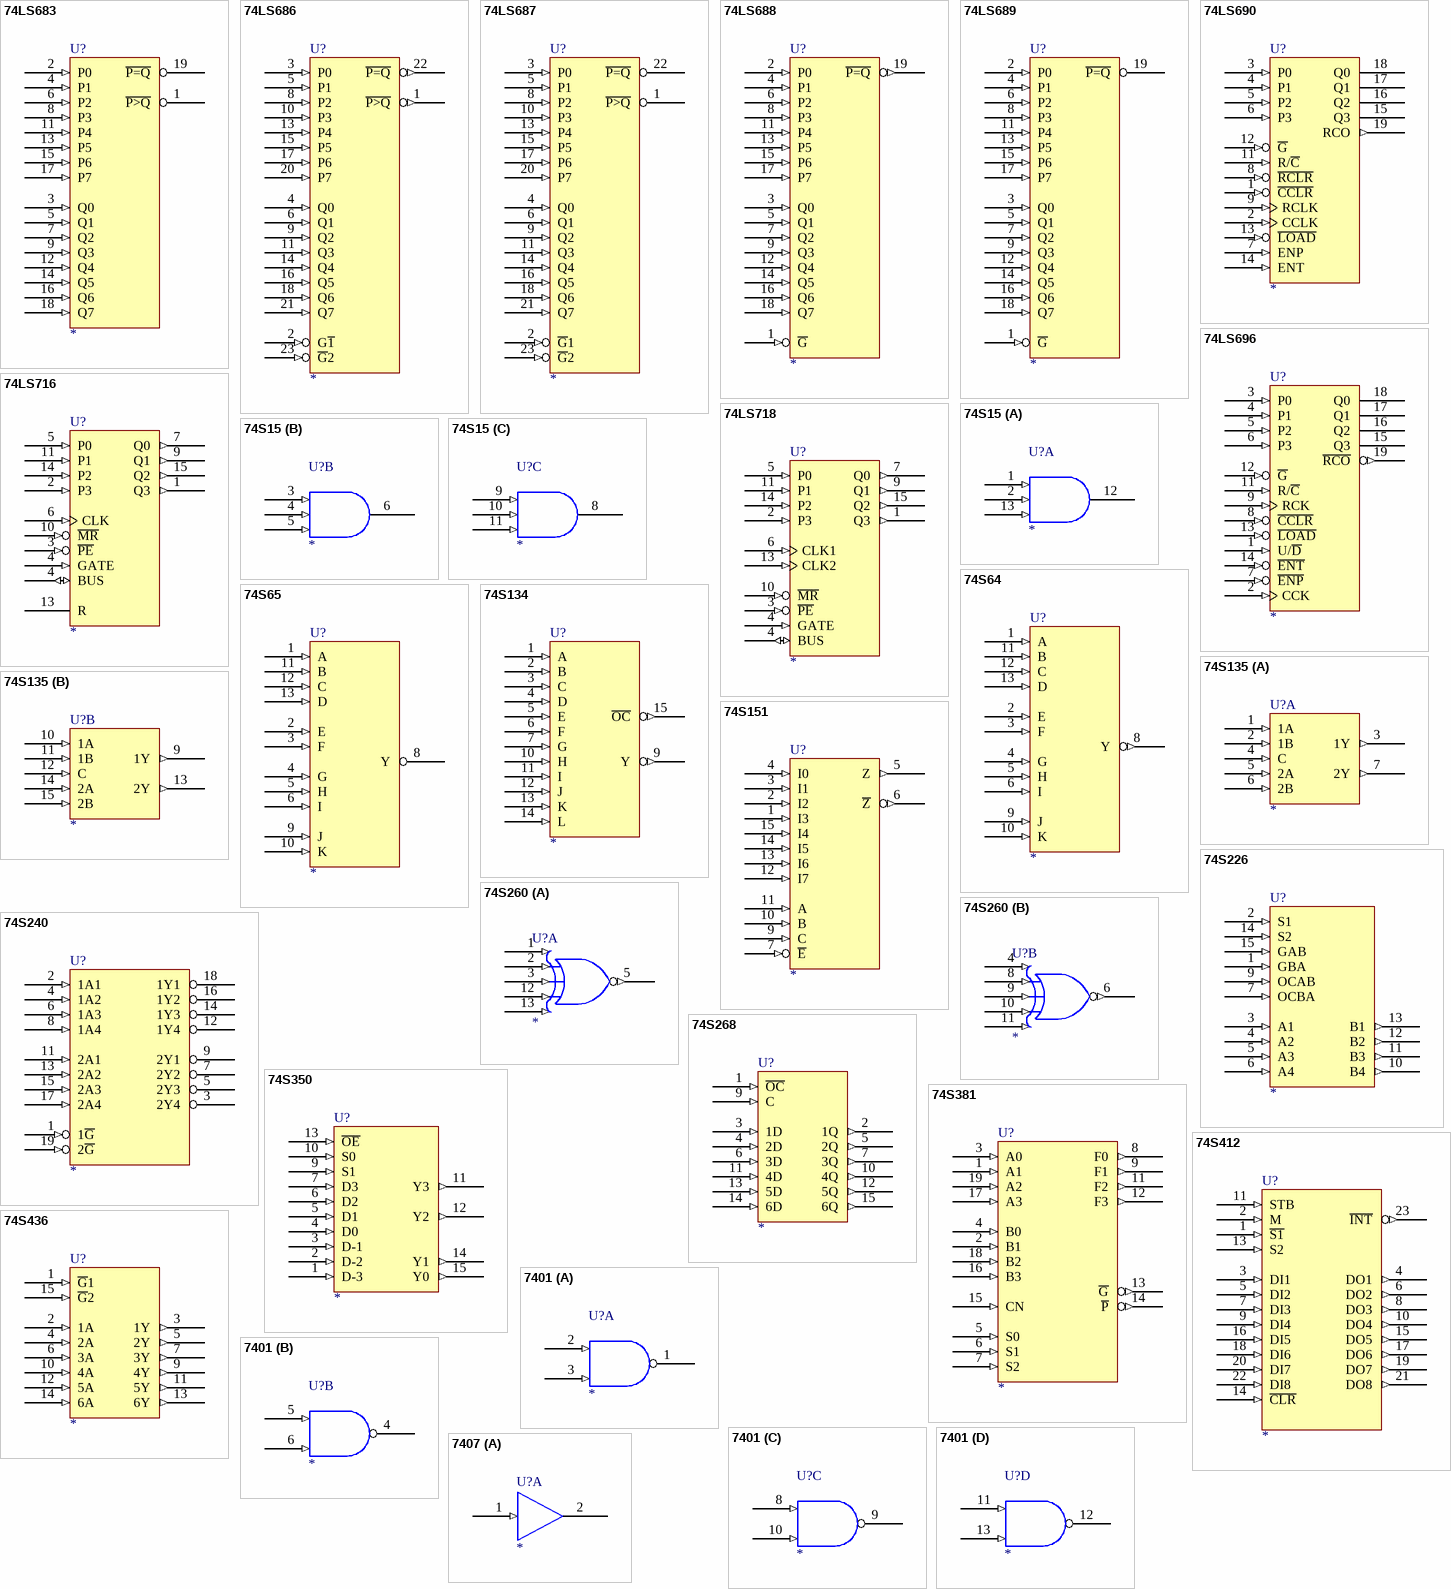
[diagram p80: symbols 74LS683 to 7407]

## 74LS683
designator U?
footprint DIP-20
pins: 1 ~{P>Q} (oc), 2 P0 (in), 3 Q0 (in), 4 P1 (in), 5 Q1 (in), 6 P2 (in), 7 Q2 (in), 8 P3 (in), 9 Q3 (in), 10 GND (power) hidden to GND, 11 P4 (in), 12 Q4 (in), 13 P5 (in), 14 Q5 (in), 15 P6 (in), 16 Q6 (in), 17 P7 (in), 18 Q7 (in), 19 ~{P=Q} (oc), 20 VCC (power) hidden to VCC

## 74LS686
designator U?
footprint DIP-24
pins: 1 ~{P>Q} (out), 2 G~{1} (in), 3 P0 (in), 4 Q0 (in), 5 P1 (in), 6 Q1 (in), 8 P2 (in), 9 Q2 (in), 10 P3 (in), 11 Q3 (in), 12 GND (power) hidden to GND, 13 P4 (in), 14 Q4 (in), 15 P5 (in), 16 Q5 (in), 17 P6 (in), 18 Q6 (in), 20 P7 (in), 21 Q7 (in), 22 ~{P=Q} (out), 23 ~{G}2 (in), 24 VCC (power) hidden to VCC

## 74LS687
designator U?
footprint DIP-24
pins: 1 ~{P>Q} (oc), 2 ~{G}1 (in), 3 P0 (in), 4 Q0 (in), 5 P1 (in), 6 Q1 (in), 8 P2 (in), 9 Q2 (in), 10 P3 (in), 11 Q3 (in), 12 GND (power) hidden to GND, 13 P4 (in), 14 Q4 (in), 15 P5 (in), 16 Q5 (in), 17 P6 (in), 18 Q6 (in), 20 P7 (in), 21 Q7 (in), 22 ~{P=Q} (oc), 23 ~{G}2 (in), 24 VCC (power) hidden to VCC

## 74LS688
designator U?
footprint DIP-20
pins: 1 ~{G} (in), 2 P0 (in), 3 Q0 (in), 4 P1 (in), 5 Q1 (in), 6 P2 (in), 7 Q2 (in), 8 P3 (in), 9 Q3 (in), 10 GND (power) hidden to GND, 11 P4 (in), 12 Q4 (in), 13 P5 (in), 14 Q5 (in), 15 P6 (in), 16 Q6 (in), 17 P7 (in), 18 Q7 (in), 19 ~{P=Q} (out), 20 VCC (power) hidden to VCC

## 74LS689
designator U?
footprint DIP-20
pins: 1 ~{G} (in), 2 P0 (in), 3 Q0 (in), 4 P1 (in), 5 Q1 (in), 6 P2 (in), 7 Q2 (in), 8 P3 (in), 9 Q3 (in), 10 GND (power) hidden to GND, 11 P4 (in), 12 Q4 (in), 13 P5 (in), 14 Q5 (in), 15 P6 (in), 16 Q6 (in), 17 P7 (in), 18 Q7 (in), 19 ~{P=Q} (oc), 20 VCC (power) hidden to VCC

## 74LS690
designator U?
footprint DIP-20
pins: 1 ~{CCLR} (in), 2 CCLK (in), 3 P0 (in), 4 P1 (in), 5 P2 (in), 6 P3 (in), 7 ENP (in), 8 ~{RCLR} (in), 9 RCLK (in), 10 GND (power) hidden to GND, 11 R/~{C} (in), 12 ~{G} (in), 13 ~{LOAD} (in), 14 ENT (in), 15 Q3 (hiz), 16 Q2 (hiz), 17 Q1 (hiz), 18 Q0 (hiz), 19 RCO (out), 20 VCC (power) hidden to VCC

## 74LS696
designator U?
footprint DIP-20
pins: 1 U/~{D} (in), 2 CCK (in), 3 P0 (in), 4 P1 (in), 5 P2 (in), 6 P3 (in), 7 ~{ENP} (in), 8 ~{CCLR} (in), 9 RCK (in), 10 GND (power) hidden to GND, 11 R/~{C} (in), 12 ~{G} (in), 13 ~{LOAD} (in), 14 ~{ENT} (in), 15 Q3 (hiz), 16 Q2 (hiz), 17 Q1 (hiz), 18 Q0 (hiz), 19 ~{RCO} (out), 20 VCC (power) hidden to VCC

## 74LS716
designator U?
footprint DIP-16
pins: 1 Q3 (out), 2 P3 (in), 3 ~{PE} (in), 4 GATE (in), 4 BUS (io), 5 P0 (in), 6 CLK (in), 7 Q0 (out), 8 GND (power) hidden to GND, 9 Q1 (out), 10 ~{MR} (in), 11 P1 (in), 13 R, 14 P2 (in), 15 Q2 (out), 16 VCC (power) hidden to VCC

## 74LS718
designator U?
footprint DIP-16
pins: 1 Q3 (out), 2 P3 (in), 3 ~{PE} (in), 4 GATE (in), 4 BUS (io), 5 P0 (in), 6 CLK1 (in), 7 Q0 (out), 8 GND (power) hidden to GND, 9 Q1 (out), 10 ~{MR} (in), 11 P1 (in), 13 CLK2 (in), 14 P2 (in), 15 Q2 (out), 16 VCC (power) hidden to VCC

## 74S15
designator U?
footprint DIP-14
part A pins: 1 (in), 2 (in), 7 GND (power) hidden to GND, 12 (oc), 13 (in), 14 VCC (power) hidden to VCC
part B pins: 3 (in), 4 (in), 5 (in), 6 (oc), 7 GND (power) hidden to GND, 14 VCC (power) hidden to VCC
part C pins: 7 GND (power) hidden to GND, 8 (oc), 9 (in), 10 (in), 11 (in), 14 VCC (power) hidden to VCC

## 74S64
designator U?
footprint DIP-14
pins: 1 A (in), 2 E (in), 3 F (in), 4 G (in), 5 H (in), 6 I (in), 7 GND (power) hidden to GND, 8 Y (out), 9 J (in), 10 K (in), 11 B (in), 12 C (in), 13 D (in), 14 VCC (power) hidden to VCC

## 74S65
designator U?
footprint DIP-14
pins: 1 A (in), 2 E (in), 3 F (in), 4 G (in), 5 H (in), 6 I (in), 7 GND (power) hidden to GND, 8 Y (oc), 9 J (in), 10 K (in), 11 B (in), 12 C (in), 13 D (in), 14 VCC (power) hidden to VCC

## 74S134
designator U?
footprint DIP-16
pins: 1 A (in), 2 B (in), 3 C (in), 4 D (in), 5 E (in), 6 F (in), 7 G (in), 8 GND (power) hidden to GND, 9 Y (out), 10 H (in), 11 I (in), 12 J (in), 13 K (in), 14 L (in), 15 ~{OC} (out), 16 VCC (power) hidden to VCC

## 74S135
designator U?
footprint DIP-16
part A pins: 1 1A (in), 2 1B (in), 3 1Y (out), 4 C (in), 5 2A (in), 6 2B (in), 7 2Y (out), 8 GND (power) hidden to GND, 16 VCC (power) hidden to VCC
part B pins: 8 GND (power) hidden to GND, 9 1Y (out), 10 1A (in), 11 1B (in), 12 C (in), 13 2Y (out), 14 2A (in), 15 2B (in), 16 VCC (power) hidden to VCC

## 74S151
designator U?
footprint DIP-16
pins: 1 I3 (in), 2 I2 (in), 3 I1 (in), 4 I0 (in), 5 Z (out), 6 ~{Z} (out), 7 ~{E} (in), 8 GND (power) hidden to GND, 9 C (in), 10 B (in), 11 A (in), 12 I7 (in), 13 I6 (in), 14 I5 (in), 15 I4 (in), 16 VCC (power) hidden to VCC

## 74S226
designator U?
footprint DIP-16
pins: 1 GBA (in), 2 S1 (in), 3 A1 (in), 4 A2 (in), 5 A3 (in), 6 A4 (in), 7 OCBA (in), 8 GND (power) hidden to GND, 9 OCAB (in), 10 B4 (out), 11 B3 (out), 12 B2 (out), 13 B1 (out), 14 S2 (in), 15 GAB (in), 16 VCC (power) hidden to VCC

## 74S240
designator U?
footprint DIP-20
pins: 1 1~{G} (in), 2 1A1 (in), 3 2Y4 (hiz), 4 1A2 (in), 5 2Y3 (hiz), 6 1A3 (in), 7 2Y2 (hiz), 8 1A4 (in), 9 2Y1 (hiz), 10 GND (power) hidden to GND, 11 2A1 (in), 12 1Y4 (hiz), 13 2A2 (in), 14 1Y3 (hiz), 15 2A3 (in), 16 1Y2 (hiz), 17 2A4 (in), 18 1Y1 (hiz), 19 2~{G} (in), 20 VCC (power) hidden to VCC

## 74S260
designator U?
footprint DIP-14
part A pins: 1 (in), 2 (in), 3 (in), 5 (out), 7 GND (power) hidden to GND, 12 (in), 13 (in), 14 VCC (power) hidden to VCC
part B pins: 4 (in), 6 (out), 7 GND (power) hidden to GND, 8 (in), 9 (in), 10 (in), 11 (in), 14 VCC (power) hidden to VCC

## 74S268
designator U?
footprint DIP-16
pins: 1 ~{OC} (in), 2 1Q (out), 3 1D (in), 4 2D (in), 5 2Q (out), 6 3D (in), 7 3Q (out), 8 GND (power) hidden to GND, 9 C (in), 10 4Q (out), 11 4D (in), 12 5Q (out), 13 5D (in), 14 6D (in), 15 6Q (out), 16 VCC (power) hidden to VCC

## 74S350
designator U?
footprint DIP-16
pins: 1 D-3 (in), 2 D-2 (in), 3 D-1 (in), 4 D0 (in), 5 D1 (in), 6 D2 (in), 7 D3 (in), 8 GND (power) hidden to GND, 9 S1 (in), 10 S0 (in), 11 Y3 (out), 12 Y2 (out), 13 ~{OE} (in), 14 Y1 (out), 15 Y0 (out), 16 VCC (power) hidden to VCC

## 74S381
designator U?
footprint DIP-20
pins: 1 A1 (in), 2 B1 (in), 3 A0 (in), 4 B0 (in), 5 S0 (in), 6 S1 (in), 7 S2 (in), 8 F0 (out), 9 F1 (out), 10 GND (power) hidden to GND, 11 F2 (out), 12 F3 (out), 13 ~{G} (out), 14 ~{P} (out), 15 CN (in), 16 B3 (in), 17 A3 (in), 18 B2 (in), 19 A2 (in), 20 VCC (power) hidden to VCC

## 74S412
designator U?
footprint DIP-24
pins: 1 ~{S1} (in), 2 M (in), 3 DI1 (in), 4 DO1 (out), 5 DI2 (in), 6 DO2 (out), 7 DI3 (in), 8 DO3 (out), 9 DI4 (in), 10 DO4 (out), 11 STB (in), 12 GND (power) hidden to GND, 13 S2 (in), 14 ~{CLR} (in), 15 DO5 (out), 16 DI5 (in), 17 DO6 (out), 18 DI6 (in), 19 DO7 (out), 20 DI7 (in), 21 DO8 (out), 22 DI8 (in), 23 ~{INT} (out), 24 VCC (power) hidden to VCC

## 74S436
designator U?
footprint DIP-16
pins: 1 ~{G}1 (in), 2 1A (in), 3 1Y (out), 4 2A (in), 5 2Y (out), 6 3A (in), 7 3Y (out), 8 GND (power) hidden to GND, 9 4Y (out), 10 4A (in), 11 5Y (out), 12 5A (in), 13 6Y (out), 14 6A (in), 15 ~{G}2 (in), 16 VCC (power) hidden to VCC

## 7401
designator U?
footprint DIP-14
part A pins: 1 (oc), 2 (in), 3 (in), 7 GND (power) hidden to GND, 14 VCC (power) hidden to VCC
part B pins: 4 (oc), 5 (in), 6 (in), 7 GND (power) hidden to GND, 14 VCC (power) hidden to VCC
part C pins: 7 GND (power) hidden to GND, 8 (in), 9 (oc), 10 (in), 14 VCC (power) hidden to VCC
part D pins: 7 GND (power) hidden to GND, 11 (in), 12 (oc), 13 (in), 14 VCC (power) hidden to VCC

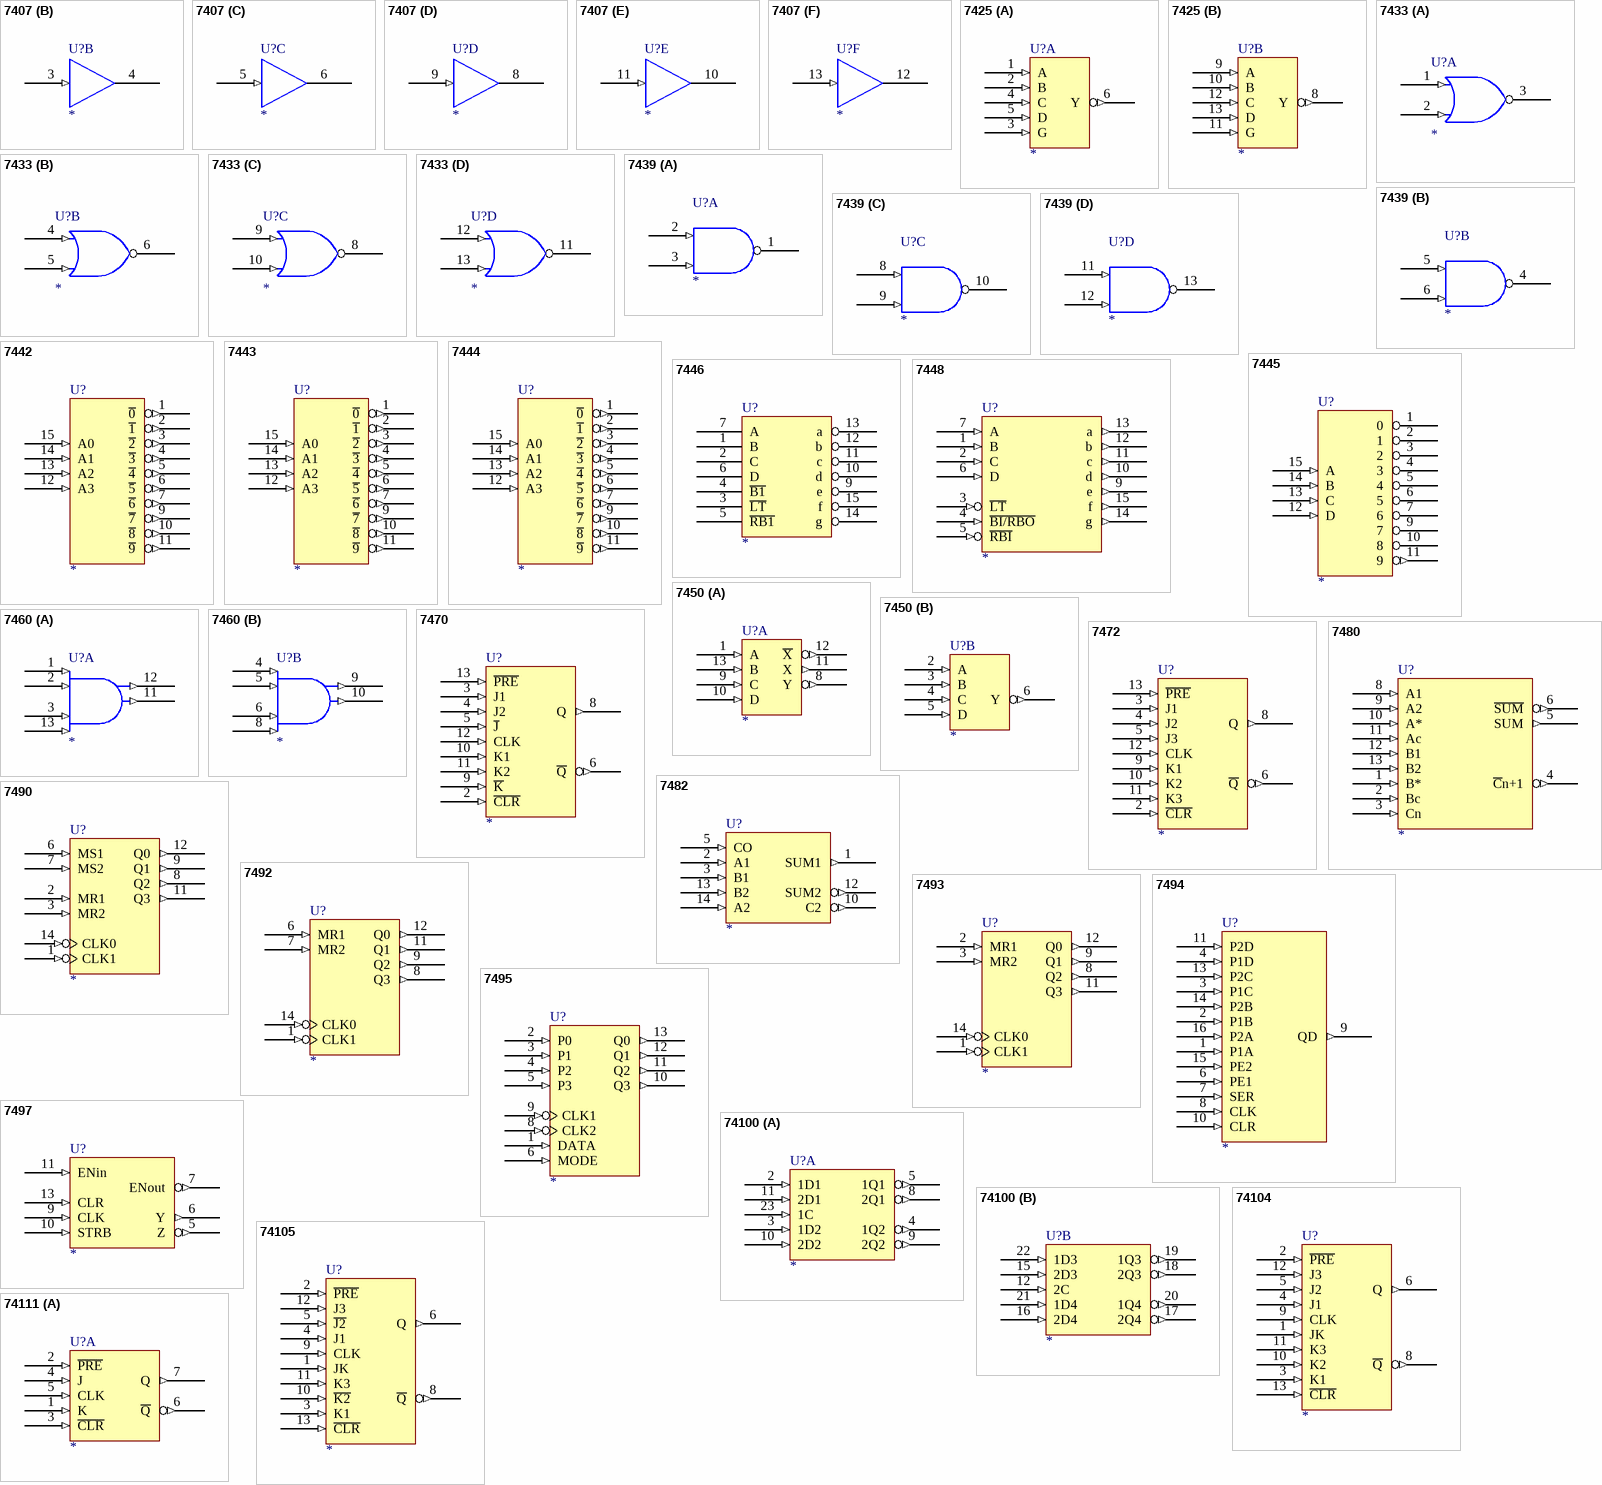
[diagram p81: symbols 7407 to 74111]

## 7407
designator U?
footprint DIP-14
part A pins: 1 (in), 2 (oc), 7 GND (power) hidden to GND, 14 VCC (power) hidden to VCC
part B pins: 3 (in), 4 (oc), 7 GND (power) hidden to GND, 14 VCC (power) hidden to VCC
part C pins: 5 (in), 6 (oc), 7 GND (power) hidden to GND, 14 VCC (power) hidden to VCC
part D pins: 7 GND (power) hidden to GND, 8 (oc), 9 (in), 14 VCC (power) hidden to VCC
part E pins: 7 GND (power) hidden to GND, 10 (oc), 11 (in), 14 VCC (power) hidden to VCC
part F pins: 7 GND (power) hidden to GND, 12 (oc), 13 (in), 14 VCC (power) hidden to VCC

## 7425
designator U?
footprint DIP-14
part A pins: 1 A (in), 2 B (in), 3 G (in), 4 C (in), 5 D (in), 6 Y (out), 7 GND (power) hidden to GND, 14 VCC (power) hidden to VCC
part B pins: 7 GND (power) hidden to GND, 8 Y (out), 9 A (in), 10 B (in), 11 G (in), 12 C (in), 13 D (in), 14 VCC (power) hidden to VCC

## 7433
designator U?
footprint DIP-14
part A pins: 1 (in), 2 (in), 3 (oc), 7 GND (power) hidden to GND, 14 VCC (power) hidden to VCC
part B pins: 4 (in), 5 (in), 6 (oc), 7 GND (power) hidden to GND, 14 VCC (power) hidden to VCC
part C pins: 7 GND (power) hidden to GND, 8 (oc), 9 (in), 10 (in), 14 VCC (power) hidden to VCC
part D pins: 7 GND (power) hidden to GND, 11 (oc), 12 (in), 13 (in), 14 VCC (power) hidden to VCC

## 7439
designator U?
footprint DIP-14
part A pins: 1 (oc), 2 (in), 3 (in), 7 GND (power) hidden to GND, 14 VCC (power) hidden to VCC
part B pins: 4 (oc), 5 (in), 6 (in), 7 GND (power) hidden to GND, 14 VCC (power) hidden to VCC
part C pins: 7 GND (power) hidden to GND, 8 (in), 9 (in), 10 (oc), 14 VCC (power) hidden to VCC
part D pins: 7 GND (power) hidden to GND, 11 (in), 12 (in), 13 (oc), 14 VCC (power) hidden to VCC

## 7442
designator U?
footprint DIP-16
pins: 1 ~{0} (out), 2 ~{1} (out), 3 ~{2} (out), 4 ~{3} (out), 5 ~{4} (out), 6 ~{5} (out), 7 ~{6} (out), 8 GND (power) hidden to GND, 9 ~{7} (out), 10 ~{8} (out), 11 ~{9} (out), 12 A3 (in), 13 A2 (in), 14 A1 (in), 15 A0 (in), 16 VCC (power) hidden to VCC

## 7443
designator U?
footprint DIP-16
pins: 1 ~{0} (out), 2 ~{1} (out), 3 ~{2} (out), 4 ~{3} (out), 5 ~{4} (out), 6 ~{5} (out), 7 ~{6} (out), 8 GND (power) hidden to GND, 9 ~{7} (out), 10 ~{8} (out), 11 ~{9} (out), 12 A3 (in), 13 A2 (in), 14 A1 (in), 15 A0 (in), 16 VCC (power) hidden to VCC

## 7444
designator U?
footprint DIP-16
pins: 1 ~{0} (out), 2 ~{1} (out), 3 ~{2} (out), 4 ~{3} (out), 5 ~{4} (out), 6 ~{5} (out), 7 ~{6} (out), 8 GND (power) hidden to GND, 9 ~{7} (out), 10 ~{8} (out), 11 ~{9} (out), 12 A3 (in), 13 A2 (in), 14 A1 (in), 15 A0 (in), 16 VCC (power) hidden to VCC

## 7445
designator U?
footprint DIP-16
pins: 1 0 (oc), 2 1 (oc), 3 2 (oc), 4 3 (oc), 5 4 (oc), 6 5 (oc), 7 6 (oc), 8 GND (power) hidden to GND, 9 7 (oc), 10 8 (oc), 11 9 (out), 12 D (in), 13 C (in), 14 B (in), 15 A (in), 16 VCC (power) hidden to VCC

## 7446
designator U?
footprint DIP-16
pins: 1 B, 2 C, 3 ~{LT}, 4 ~{B1}, 5 ~{RB1}, 6 D, 7 A, 8 GND (power) hidden to GND, 9 e (oc), 10 d (oc), 11 c (oc), 12 b (oc), 13 a (oc), 14 g (oc), 15 f (oc), 16 VCC (power) hidden to VCC

## 7448
designator U?
footprint DIP-16
pins: 1 B (in), 2 C (in), 3 ~{LT} (in), 4 ~{BI/RBO} (in), 5 ~{RBI} (in), 6 D (in), 7 A (in), 8 GND (power) hidden to GND, 9 e (out), 10 d (out), 11 c (out), 12 b (out), 13 a (out), 14 g (out), 15 f (out), 16 VCC (power) hidden to VCC

## 7450
designator U?
footprint DIP-14
part A pins: 1 A (in), 7 GND (power) hidden to GND, 8 Y (out), 9 C (in), 10 D (in), 11 X (out), 12 ~{X} (out), 13 B (in)
part B pins: 2 A (in), 3 B (in), 4 C (in), 5 D (in), 6 Y (out), 7 GND (power) hidden to GND

## 7460
designator U?
footprint DIP-14
part A pins: 1 (in), 2 (in), 3 (in), 7 GND (power) hidden to GND, 11 (out), 12 (out), 13 (in), 14 VCC (power) hidden to VCC
part B pins: 4 (in), 5 (in), 6 (in), 7 GND (power) hidden to GND, 8 (in), 9 (out), 10 (out), 14 VCC (power) hidden to VCC

## 7470
designator U?
footprint DIP-14
pins: 2 ~{CLR} (in), 3 J1 (in), 4 J2 (in), 5 ~{J} (in), 6 ~{Q} (out), 7 GND (power) hidden to GND, 8 Q (out), 9 ~{K} (in), 10 K1 (in), 11 K2 (in), 12 CLK (in), 13 ~{PRE} (in), 14 VCC (power) hidden to VCC

## 7472
designator U?
footprint DIP-14
pins: 2 ~{CLR} (in), 3 J1 (in), 4 J2 (in), 5 J3 (in), 6 ~{Q} (out), 7 GND (power) hidden to GND, 8 Q (out), 9 K1 (in), 10 K2 (in), 11 K3 (in), 12 CLK (in), 13 ~{PRE} (in), 14 VCC (power) hidden to VCC

## 7480
designator U?
footprint DIP-14
pins: 1 B* (in), 2 Bc (in), 3 Cn (in), 4 ~{C}n+1 (out), 5 SUM (out), 6 ~{SUM} (out), 7 GND (power) hidden to GND, 8 A1 (in), 9 A2 (in), 10 A* (in), 11 Ac (in), 12 B1 (in), 13 B2 (in), 14 VCC (power) hidden to VCC

## 7482
designator U?
footprint DIP-14
pins: 1 SUM1 (out), 2 A1 (in), 3 B1 (in), 4 VCC (power) hidden to VCC, 5 CO (in), 10 C2 (out), 11 GND (power) hidden to GND, 12 SUM2 (out), 13 B2 (in), 14 A2 (in)

## 7490
designator U?
footprint DIP-14
pins: 1 CLK1 (in), 2 MR1 (in), 3 MR2 (in), 5 VCC (power) hidden to VCC, 6 MS1 (in), 7 MS2 (in), 8 Q2 (out), 9 Q1 (out), 10 GND (power) hidden to GND, 11 Q3 (out), 12 Q0 (out), 14 CLK0 (in)

## 7492
designator U?
footprint DIP-14
pins: 1 CLK1 (in), 5 VCC (power) hidden to VCC, 6 MR1 (in), 7 MR2 (in), 8 Q3 (out), 9 Q2 (out), 10 GND (power) hidden to GND, 11 Q1 (out), 12 Q0 (out), 14 CLK0 (in)

## 7493
designator U?
footprint DIP-14
pins: 1 CLK1 (in), 2 MR1 (in), 3 MR2 (in), 5 VCC (power) hidden to VCC, 8 Q2 (out), 9 Q1 (out), 10 GND (power) hidden to GND, 11 Q3 (out), 12 Q0 (out), 14 CLK0 (in)

## 7494
designator U?
footprint DIP-16
pins: 1 P1A (in), 2 P1B (in), 3 P1C (in), 4 P1D (in), 5 VCC (power) hidden to VCC, 6 PE1 (in), 7 SER (in), 8 CLK (in), 9 QD (out), 10 CLR (in), 11 P2D (in), 12 GND (power) hidden to GND, 13 P2C (in), 14 P2B (in), 15 PE2 (in), 16 P2A (in)

## 7495
designator U?
footprint DIP-16
pins: 1 DATA (in), 2 P0 (in), 3 P1 (in), 4 P2 (in), 5 P3 (in), 6 MODE (in), 7 GND (power) hidden to GND, 8 CLK2 (in), 9 CLK1 (in), 10 Q3 (out), 11 Q2 (out), 12 Q1 (out), 13 Q0 (out), 16 VCC (power) hidden to VCC

## 7497
designator U?
footprint DIP-16
pins: 5 Z (out), 6 Y (out), 7 ENout (out), 8 GND (power) hidden to GND, 9 CLK (in), 10 STRB (in), 11 ENin (in), 13 CLR (in), 16 VCC (power) hidden to VCC

## 74100
designator U?
footprint DIP-24
part A pins: 2 1D1 (in), 3 1D2 (in), 4 1Q2 (out), 5 1Q1 (out), 7 GND (power) hidden to GND, 8 2Q1 (out), 9 2Q2 (out), 10 2D2 (in), 11 2D1 (in), 23 1C (in)
part B pins: 7 GND (power) hidden to GND, 12 2C (in), 15 2D3 (in), 16 2D4 (in), 17 2Q4 (out), 18 2Q3 (out), 19 1Q3 (out), 20 1Q4 (out), 21 1D4 (in), 22 1D3 (in)

## 74104
designator U?
footprint DIP-14
pins: 1 JK (in), 2 ~{PRE} (in), 3 K1 (in), 4 J1 (in), 5 J2 (in), 6 Q (out), 7 GND (power) hidden to GND, 8 ~{Q} (out), 9 CLK (in), 10 K2 (in), 11 K3 (in), 12 J3 (in), 13 ~{CLR} (in), 14 VCC (power) hidden to VCC

## 74105
designator U?
footprint DIP-14
pins: 1 JK (in), 2 ~{PRE} (in), 3 K1 (in), 4 J1 (in), 5 ~{J2} (in), 6 Q (out), 7 GND (power) hidden to GND, 8 ~{Q} (out), 9 CLK (in), 10 ~{K2} (in), 11 K3 (in), 12 J3 (in), 13 ~{CLR} (in), 14 VCC (power) hidden to VCC

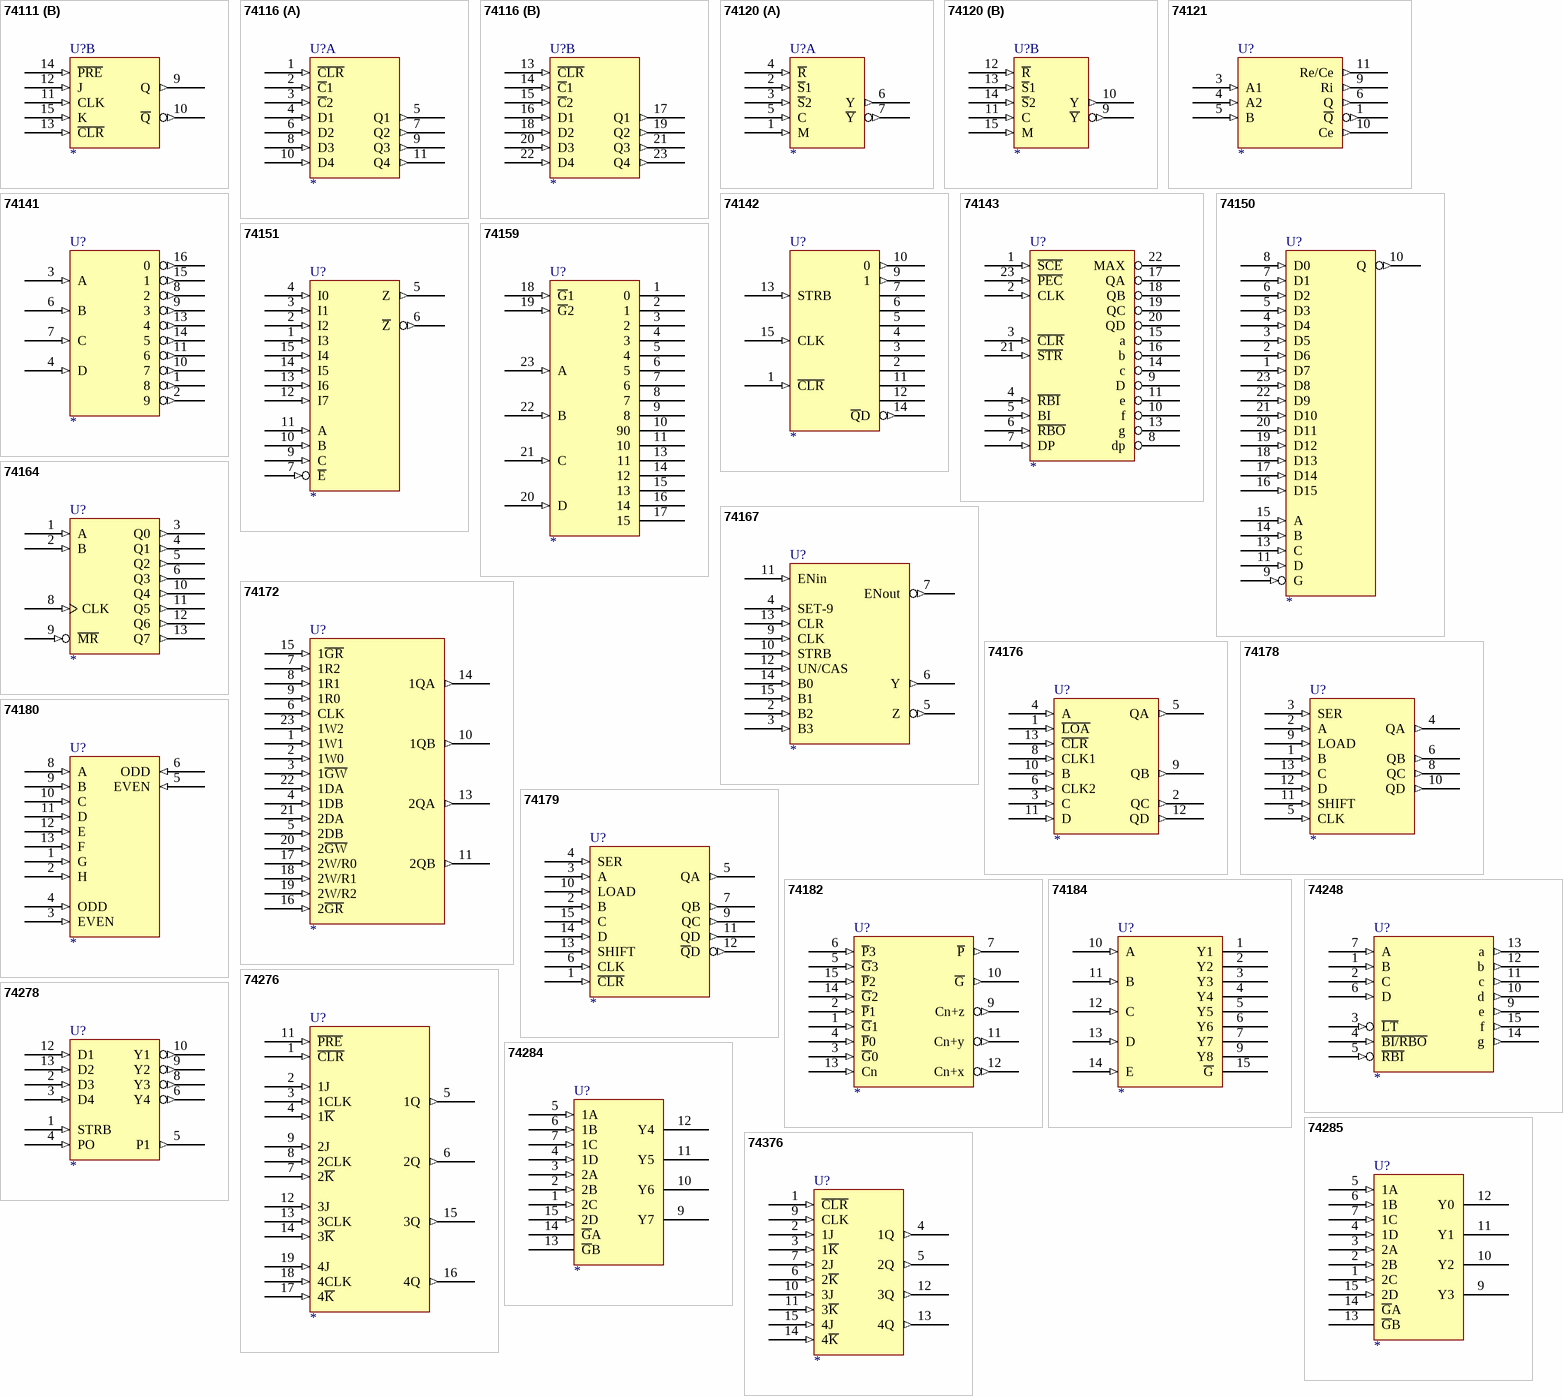
[diagram p82: symbols 74111 to 74376]

## 74111
designator U?
footprint DIP-16
part A pins: 1 K (in), 2 ~{PRE} (in), 3 ~{CLR} (in), 4 J (in), 5 CLK (in), 6 ~{Q} (out), 7 Q (out), 8 GND (power) hidden to GND, 16 VCC (power) hidden to VCC
part B pins: 8 GND (power) hidden to GND, 9 Q (out), 10 ~{Q} (out), 11 CLK (in), 12 J (in), 13 ~{CLR} (in), 14 ~{PRE} (in), 15 K (in), 16 VCC (power) hidden to VCC

## 74116
designator U?
footprint DIP-24
part A pins: 1 ~{CLR} (in), 2 ~{C}1 (in), 3 ~{C}2 (in), 4 D1 (in), 5 Q1 (out), 6 D2 (in), 7 Q2 (out), 8 D3 (in), 9 Q3 (out), 10 D4 (in), 11 Q4 (out), 12 GND (power) hidden to GND, 24 VCC (power) hidden to VCC
part B pins: 12 GND (power) hidden to GND, 13 ~{CLR} (in), 14 ~{C}1 (in), 15 ~{C}2 (in), 16 D1 (in), 17 Q1 (out), 18 D2 (in), 19 Q2 (out), 20 D3 (in), 21 Q3 (out), 22 D4 (in), 23 Q4 (out), 24 VCC (power) hidden to VCC

## 74120
designator U?
footprint DIP-16
part A pins: 1 M (in), 2 ~{S}1 (in), 3 ~{S}2 (in), 4 ~{R} (in), 5 C (in), 6 Y (out), 7 ~{Y} (out), 8 GND (power) hidden to GND, 16 VCC (power) hidden to VCC
part B pins: 8 GND (power) hidden to GND, 9 ~{Y} (out), 10 Y (out), 11 C (in), 12 ~{R} (in), 13 ~{S}1 (in), 14 ~{S}2 (in), 15 M (in), 16 VCC (power) hidden to VCC

## 74121
designator U?
footprint DIP-14
pins: 1 ~{Q} (out), 3 A1 (in), 4 A2 (in), 5 B (in), 6 Q (out), 7 GND (power) hidden to GND, 9 Ri (out), 10 Ce (out), 11 Re/Ce (out), 14 VCC (power) hidden to VCC

## 74141
designator U?
footprint DIP-16
pins: 1 8 (out), 2 9 (out), 3 A (in), 4 D (in), 5 VCC (power) hidden to VCC, 6 B (in), 7 C (in), 8 2 (out), 9 3 (out), 10 7 (out), 11 6 (out), 12 GND (power) hidden to GND, 13 4 (out), 14 5 (out), 15 1 (out), 16 0 (out)

## 74142
designator U?
footprint DIP-16
pins: 1 ~{CLR} (in), 2, 3, 4, 5, 6, 7, 8 GND (power) hidden to GND, 9 1 (out), 10 0 (out), 11, 12, 13 STRB (in), 14 ~{Q}D (out), 15 CLK (in), 16 VCC (power) hidden to VCC

## 74143
designator U?
footprint DIP-24
pins: 1 ~{SCE} (in), 2 CLK (in), 3 ~{CLR} (in), 4 ~{RBI} (in), 5 BI (in), 6 ~{RBO} (in), 7 DP (in), 8 dp (oc), 9 D (oc), 10 f (oc), 11 e (oc), 12 GND (power) hidden to GND, 13 g (oc), 14 c (oc), 15 a (oc), 16 b (oc), 17 QA (oc), 18 QB (oc), 19 QC (oc), 20 QD (oc), 21 ~{STR} (in), 22 MAX (oc), 23 ~{PEC} (in), 24 VCC (power) hidden to VCC

## 74150
designator U?
footprint DIP-24
pins: 1 D7 (in), 2 D6 (in), 3 D5 (in), 4 D4 (in), 5 D3 (in), 6 D2 (in), 7 D1 (in), 8 D0 (in), 9 G (in), 10 Q (out), 11 D (in), 12 GND (power) hidden to GND, 13 C (in), 14 B (in), 15 A (in), 16 D15 (in), 17 D14 (in), 18 D13 (in), 19 D12 (in), 20 D11 (in), 21 D10 (in), 22 D9 (in), 23 D8 (in), 24 VCC (power) hidden to VCC

## 74151
designator U?
footprint DIP-16
pins: 1 I3 (in), 2 I2 (in), 3 I1 (in), 4 I0 (in), 5 Z (out), 6 ~{Z} (out), 7 ~{E} (in), 8 GND (power) hidden to GND, 9 C (in), 10 B (in), 11 A (in), 12 I7 (in), 13 I6 (in), 14 I5 (in), 15 I4 (in), 16 VCC (power) hidden to VCC

## 74159
designator U?
footprint DIP-24
pins: 1 0 (oc), 2 1 (oc), 3 2 (oc), 4 3 (oc), 5 4 (oc), 6 5 (oc), 7 6 (oc), 8 7 (oc), 9 8 (oc), 10 90 (oc), 11 10 (oc), 12 GND (power) hidden to GND, 13 11 (oc), 14 12 (oc), 15 13 (oc), 16 14 (oc), 17 15 (oc), 18 ~{G}1 (in), 19 ~{G}2 (in), 20 D (in), 21 C (in), 22 B (in), 23 A (in), 24 VCC (power) hidden to VCC

## 74164
designator U?
footprint DIP-14
pins: 1 A (in), 2 B (in), 3 Q0 (out), 4 Q1 (out), 5 Q2 (out), 6 Q3 (out), 7 GND (power) hidden to GND, 8 CLK (in), 9 ~{MR} (in), 10 Q4 (out), 11 Q5 (out), 12 Q6 (out), 13 Q7 (out), 14 VCC (power) hidden to VCC

## 74167
designator U?
footprint DIP-16
pins: 1 VCC (power) hidden to VCC, 2 B2 (in), 3 B3 (in), 4 SET-9 (in), 5 Z (out), 6 Y (out), 7 ENout (out), 8 GND (power) hidden to GND, 9 CLK (in), 10 STRB (in), 11 ENin (in), 12 UN/CAS (in), 13 CLR (in), 14 B0 (in), 15 B1 (in)

## 74172
designator U?
footprint DIP-24
pins: 1 1W1 (in), 2 1W0 (in), 3 1~{GW} (in), 4 1DB (in), 5 2DB (in), 6 CLK (in), 7 1R2 (in), 8 1R1 (in), 9 1R0 (in), 10 1QB (out), 11 2QB (out), 12 GND (power) hidden to GND, 13 2QA (out), 14 1QA (out), 15 1~{GR} (in), 16 2~{GR} (in), 17 2W/R0 (in), 18 2W/R1 (in), 19 2W/R2 (in), 20 2~{GW} (in), 21 2DA (in), 22 1DA (in), 23 1W2 (in), 24 VCC (power) hidden to VCC

## 74176
designator U?
footprint DIP-14
pins: 1 ~{LOA} (in), 2 QC (out), 3 C (in), 4 A (in), 5 QA (out), 6 CLK2 (in), 7 GND (power) hidden to GND, 8 CLK1 (in), 9 QB (out), 10 B (in), 11 D (in), 12 QD (out), 13 ~{CLR} (in), 14 VCC (power) hidden to VCC

## 74178
designator U?
footprint DIP-14
pins: 1 B (in), 2 A (in), 3 SER (in), 4 QA (out), 5 CLK (in), 6 QB (out), 7 GND (power) hidden to GND, 8 QC (out), 9 LOAD (in), 10 QD (out), 11 SHIFT (in), 12 D (in), 13 C (in), 14 VCC (power) hidden to VCC

## 74179
designator U?
footprint DIP-16
pins: 1 ~{CLR} (in), 2 B (in), 3 A (in), 4 SER (in), 5 QA (out), 6 CLK (in), 7 QB (out), 8 GND (power) hidden to GND, 9 QC (out), 10 LOAD (in), 11 QD (out), 12 ~{Q}D (out), 13 SHIFT (in), 14 D (in), 15 C (in), 16 VCC (power) hidden to VCC

## 74180
designator U?
footprint DIP-14
pins: 1 G (in), 2 H (in), 3 EVEN (in), 4 ODD (in), 5 EVEN (in), 6 ODD (in), 7 GND (power) hidden to GND, 8 A (in), 9 B (in), 10 C (in), 11 D (in), 12 E (in), 13 F (in), 14 VCC (power) hidden to VCC

## 74182
designator U?
footprint DIP-16
pins: 1 ~{G}1 (in), 2 ~{P}1 (in), 3 ~{G}0 (in), 4 ~{P}0 (in), 5 ~{G}3 (in), 6 ~{P}3 (in), 7 ~{P} (out), 8 GND (power) hidden to GND, 9 Cn+z (out), 10 ~{G} (out), 11 Cn+y (out), 12 Cn+x (out), 13 Cn (in), 14 ~{G}2 (in), 15 ~{P}2 (in), 16 VCC (power) hidden to VCC

## 74184
designator U?
footprint DIP-16
pins: 1 Y1 (oc), 2 Y2 (oc), 3 Y3 (oc), 4 Y4 (oc), 5 Y5 (oc), 6 Y6 (oc), 7 Y7 (oc), 8 GND (power) hidden to GND, 9 Y8 (oc), 10 A (in), 11 B (in), 12 C (in), 13 D (in), 14 E (in), 15 ~{G} (oc), 16 VCC (power) hidden to VCC

## 74248
designator U?
footprint DIP-16
pins: 1 B (in), 2 C (in), 3 ~{LT} (in), 4 ~{BI/RBO} (in), 5 ~{RBI} (in), 6 D (in), 7 A (in), 8 GND (power) hidden to GND, 9 e (out), 10 d (out), 11 c (out), 12 b (out), 13 a (out), 14 g (out), 15 f (out), 16 VCC (power) hidden to VCC

## 74276
designator U?
footprint DIP-20
pins: 1 ~{CLR} (in), 2 1J (in), 3 1CLK (in), 4 1~{K} (in), 5 1Q (out), 6 2Q (out), 7 2~{K} (in), 8 2CLK (in), 9 2J (in), 10 GND (power) hidden to GND, 11 ~{PRE} (in), 12 3J (in), 13 3CLK (in), 14 3~{K} (in), 15 3Q (out), 16 4Q (out), 17 4~{K} (in), 18 4CLK (in), 19 4J (in), 20 VCC (power) hidden to VCC

## 74278
designator U?
footprint DIP-14
pins: 1 STRB (in), 2 D3 (in), 3 D4 (in), 4 PO (in), 5 P1 (out), 6 Y4 (out), 7 GND (power) hidden to GND, 8 Y3 (out), 9 Y2 (out), 10 Y1 (out), 12 D1 (in), 13 D2 (in), 14 VCC (power) hidden to VCC

## 74284
designator U?
footprint DIP-16
pins: 1 2C (in), 2 2B (in), 3 2A (in), 4 1D (in), 5 1A (in), 6 1B (in), 7 1C (in), 8 GND (power) hidden to GND, 9 Y7 (oc), 10 Y6 (oc), 11 Y5 (oc), 12 Y4 (oc), 13 ~{G}B, 14 ~{G}A, 15 2D (in), 16 VCC (power) hidden to VCC

## 74285
designator U?
footprint DIP-16
pins: 1 2C (in), 2 2B (in), 3 2A (in), 4 1D (in), 5 1A (in), 6 1B (in), 7 1C (in), 8 GND (power) hidden to GND, 9 Y3 (oc), 10 Y2 (oc), 11 Y1 (oc), 12 Y0 (oc), 13 ~{G}B, 14 ~{G}A, 15 2D (in), 16 VCC (power) hidden to VCC

## 74376
designator U?
footprint DIP-16
pins: 1 ~{CLR} (in), 2 1J (in), 3 1~{K} (in), 4 1Q (out), 5 2Q (out), 6 2~{K} (in), 7 2J (in), 8 GND (power) hidden to GND, 9 CLK (in), 10 3J (in), 11 3~{K} (in), 12 3Q (out), 13 4Q (out), 14 4~{K} (in), 15 4J (in), 16 VCC (power) hidden to VCC


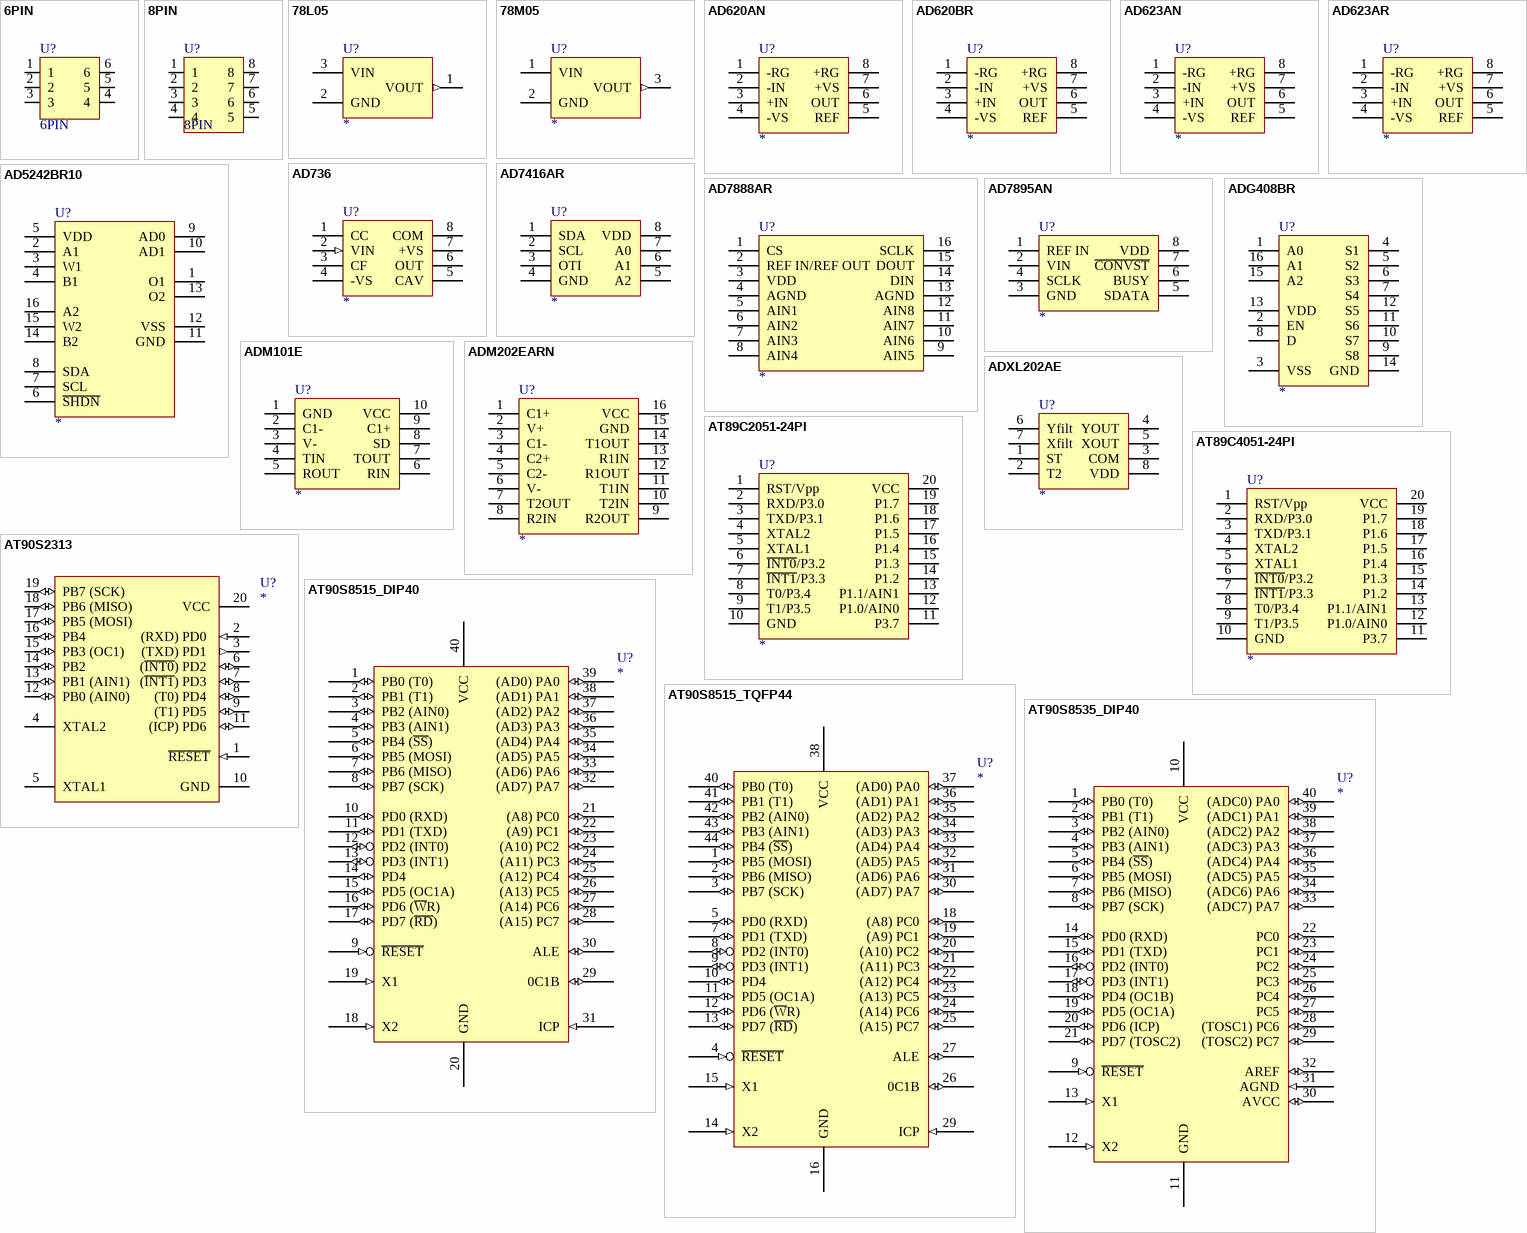
[diagram p83: symbols 6PIN to AT90S8535_DIP40]

## 6PIN
designator U?
pins: 1, 2, 3, 4, 5, 6

## 8PIN
designator U?
pins: 1, 2, 3, 4, 5, 6, 7, 8

## 78L05
designator U?
CI-78L05
footprint TO-92
pins: 1 VOUT (out), 2 GND (power), 3 VIN (power)

## 78M05
designator U?
CI-78M05
footprint DPAK
pins: 1 VIN (power), 2 GND (power), 3 VOUT (out)

## AD620AN
designator U?
CI-AD620AN
footprint DIP-8N
pins: 1 -RG, 2 -IN, 3 +IN, 4 -VS, 5 REF, 6 OUT, 7 +VS, 8 +RG

## AD620BR
designator U?
CI-AD620BR
footprint SO-8N
pins: 1 -RG, 2 -IN, 3 +IN, 4 -VS, 5 REF, 6 OUT, 7 +VS, 8 +RG

## AD623AN
designator U?
CI-AD623AN
footprint DIP-8N
pins: 1 -RG, 2 -IN, 3 +IN, 4 -VS, 5 REF, 6 OUT, 7 +VS, 8 +RG

## AD623AR
designator U?
CI-AD623AR
footprint SO-8N
pins: 1 -RG, 2 -IN, 3 +IN, 4 -VS, 5 REF, 6 OUT, 7 +VS, 8 +RG

## AD736
designator U?
CI-AD736
footprint SO-8N
pins: 1 CC, 2 VIN (in), 3 CF, 4 -VS (power), 5 CAV, 6 OUT, 7 +VS (power), 8 COM

## AD5242BR10
designator U?
CI-AD5242BR10
footprint SO-16N
pins: 1 O1, 2 A1, 3 W1, 4 B1, 5 VDD (power), 6 ~{SHDN}, 7 SCL, 8 SDA, 9 AD0, 10 AD1, 11 GND (power), 12 VSS, 13 O2, 14 B2, 15 W2, 16 A2

## AD7416AR
designator U?
CI-AD7416AR
footprint SO-8N
pins: 1 SDA, 2 SCL, 3 OTI, 4 GND (power), 5 A2, 6 A1, 7 A0, 8 VDD (power)

## AD7888AR
designator U?
CI-AD7888AR
footprint SO-16N
pins: 1 CS, 2 REF IN/REF OUT, 3 VDD (power), 4 AGND, 5 AIN1, 6 AIN2, 7 AIN3, 8 AIN4, 9 AIN5, 10 AIN6, 11 AIN7, 12 AIN8, 13 AGND, 14 DIN, 15 DOUT, 16 SCLK

## AD7895AN
designator U?
CI-AD7895AN
footprint DIP-8N
pins: 1 REF IN, 2 VIN, 3 GND (power), 4 SCLK, 5 SDATA, 6 BUSY, 7 ~{CONVST}, 8 VDD (power)

## ADG408BR
designator U?
CI-ADG408BR
footprint SO-16N
pins: 1 A0, 2 EN, 3 VSS (power), 4 S1, 5 S2, 6 S3, 7 S4, 8 D, 9 S8, 10 S7, 11 S6, 12 S5, 13 VDD (power), 14 GND, 15 A2, 16 A1

## ADM101E
designator U?
CI-ADM101E
footprint RM-10
pins: 1 GND (power), 2 C1-, 3 V-, 4 TIN, 5 ROUT, 6 RIN, 7 TOUT, 8 SD, 9 C1+, 10 VCC (power)

## ADM202EARN
designator U?
CI-ADM202EARN
footprint SO-16N
pins: 1 C1+, 2 V+, 3 C1-, 4 C2+, 5 C2-, 6 V-, 7 T2OUT, 8 R2IN, 9 R2OUT, 10 T2IN, 11 T1IN, 12 R1OUT, 13 R1IN, 14 T1OUT, 15 GND (power), 16 VCC (power)

## ADXL202AE
designator U?
CI-ADXL202AE
footprint LCC-8
pins: 1 ST, 2 T2, 3 COM, 4 YOUT, 5 XOUT, 6 Yfilt (power), 7 Xfilt (power), 8 VDD (power)

## AT89C2051-24PI
designator U?
CI-AT89C2051-24PI
footprint DIP-20N
pins: 1 RST/Vpp, 2 RXD/P3.0, 3 TXD/P3.1, 4 XTAL2, 5 XTAL1, 6 ~{INT0}/P3.2, 7 ~{INT1}/P3.3, 8 T0/P3.4, 9 T1/P3.5, 10 GND, 11 P3.7, 12 P1.0/AIN0, 13 P1.1/AIN1, 14 P1.2, 15 P1.3, 16 P1.4, 17 P1.5, 18 P1.6, 19 P1.7, 20 VCC

## AT89C4051-24PI
designator U?
CI-AT89C4051-24PI
footprint DIP-20N
pins: 1 RST/Vpp, 2 RXD/P3.0, 3 TXD/P3.1, 4 XTAL2, 5 XTAL1, 6 ~{INT0}/P3.2, 7 ~{INT1}/P3.3, 8 T0/P3.4, 9 T1/P3.5, 10 GND (power), 11 P3.7, 12 P1.0/AIN0, 13 P1.1/AIN1, 14 P1.2, 15 P1.3, 16 P1.4, 17 P1.5, 18 P1.6, 19 P1.7, 20 VCC (power)

## AT90S2313
designator U?
Atmel Microcontroller - Library created by carel..  <www.mpfreezone.com>
footprint SO-20
footprint DIP-20
pins: 1 ~{RESET} (in), 2 (RXD) PD0  (in), 3 (TXD) PD1  (out), 4 XTAL2, 5 XTAL1, 6 (~{INT0}) PD2  (io), 7 (~{INT1}) PD3  (io), 8 (T0) PD4  (io), 9 (T1) PD5  (io), 10 GND (power), 11 (ICP) PD6  (io), 12 PB0 (AIN0)  (io), 13 PB1 (AIN1)  (io), 14 PB2 (io), 15 PB3 (OC1)  (io), 16 PB4 (io), 17 PB5 (MOSI)  (io), 18 PB6 (MISO)  (io), 19 PB7 (SCK) (io), 20 VCC (power)

## AT90S8515_DIP40
designator U?
Atmel Microcontroller - Library created by carel..  <www.mpfreezone.com>
footprint DIP-40
pins: 1 PB0 (T0) (io), 2 PB1 (T1) (io), 3 PB2 (AIN0) (io), 4 PB3 (AIN1) (io), 5 PB4 (~{SS}) (io), 6 PB5 (MOSI) (io), 7 PB6 (MISO) (io), 8 PB7 (SCK) (io), 9 ~{RESET} (in), 10 PD0 (RXD) (io), 11 PD1 (TXD) (io), 12 PD2 (INT0) (io), 13 PD3 (INT1) (io), 14 PD4 (io), 15 PD5 (OC1A) (io), 16 PD6 (~{W}R) (io), 17 PD7 (~{RD}) (io), 18 X2 (in), 19 X1 (in), 20 GND (power), 21 (A8) PC0 (io), 22 (A9) PC1 (io), 23 (A10) PC2 (io), 24 (A11) PC3 (io), 25 (A12) PC4 (io), 26 (A13) PC5 (io), 27 (A14) PC6 (io), 28 (A15) PC7 (io), 29 0C1B (io), 30 ALE (io), 31 ICP (in), 32 (AD7) PA7 (io), 33 (AD6) PA6 (io), 34 (AD5) PA5 (io), 35 (AD4) PA4 (io), 36 (AD3) PA3 (io), 37 (AD2) PA2 (io), 38 (AD1) PA1 (io), 39 (AD0) PA0 (io), 40 VCC (power)